# Altium schematic symbol library Horizont_11_12_2017.SchLib: 240 symbols (part 1 of 2)
Pins are listed as number, name and electrical type; pins without a type are passive.

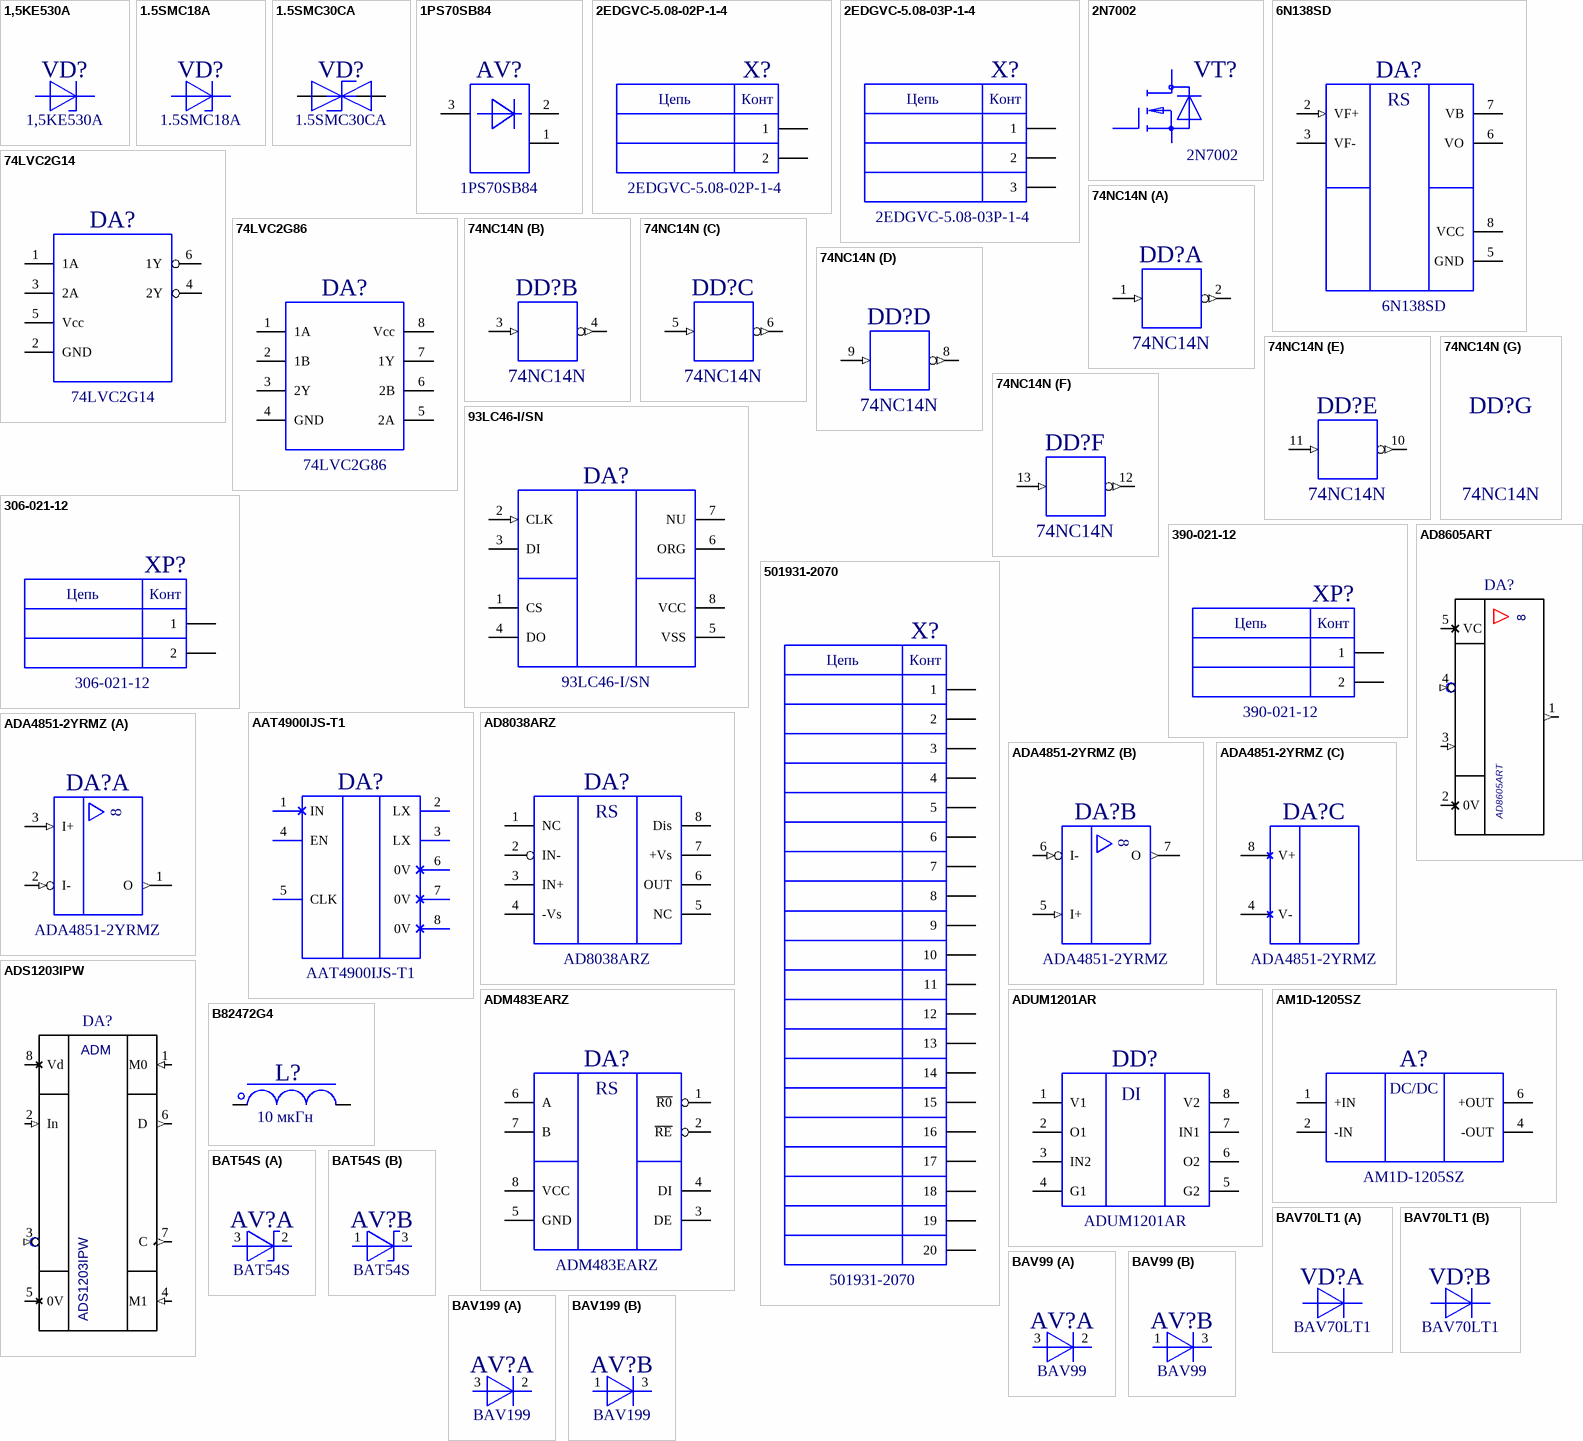
[diagram p0: symbols 1,5KE530A to BAV199]

## 1,5KE530A
designator VD?
TVS-диод 1,5KE530A; Manufacturer: Littelfuse; ValueBOM: TVS-диод 1,5KE530A Littelfuse; DType: TVS-диод; ValueSch: 1,5KE530A; ComponentLink1Description: Datasheet; ComponentLink1URL: c:\Dataseets\Диоды\По фирмам\Littelfuse\TVS-Diode_1.5KE.pdf; Package: DO201
footprint DO201_DIP17.5
footprint DO201_PL22
pins: 1 +, 2 -

## 1.5SMC18A
designator VD?
Супрессор 1.5SMC18A; Manufacturer: TSC; ValueBOM: Супрессор 1.5SMC18A TSC; DType: Супрессор; ValueSch: 1.5SMC18A; ComponentLink1Description: Datasheet; ComponentLink1URL: c:\Dataseets\Стабилитроны\По фирмам\TSC\1.5SMC_TSC.pdf; Package: SMC
footprint SMC
pins: 1 +, 2 -

## 1.5SMC30CA
designator VD?
Супрессор 1.5SMC30CA; Manufacturer: TMS; ValueBOM: Супрессор 1.5SMC30CA TMS; DType: Супрессор; ValueSch: 1.5SMC30CA; ComponentLink1Description: Datasheet; ComponentLink1URL: c:\Dataseets\Стабилитроны\По фирмам\TSC\1.5SMC_TSC.pdf; Package: SOD110
footprint SMCB
pins: 1 A, 2 K

## 1PS70SB84
designator AV?
Сборка диодная 1PS70SB84; Manufacturer: Philips Semiconductors; ValueBOM: Сборка диодная 1PS70SB84 Philips Semiconductors; DType: Сборка диодная; ValueSch: 1PS70SB84; ComponentLink1Description: Datasheet; ComponentLink1URL: c:\Dataseets\Диоды\По фирмам\Philips Semiconductors\1PS70SB82_84_85_86_1.pdf; Package: SOT323
footprint SOT323
pins: 1 A, 2 K, 3 Com

## 2EDGVC-5.08-02P-1-4
designator X?
Вилка 2EDGVC-5.08-02P-1-4; Manufacturer: DEGSON; ValueBOM: Вилка 2EDGVC-5.08-02P-1-4 DEGSON; ValueSch: 2EDGVC-5.08-02P-1-4; DType: Вилка; ComponentLink1Description: Datasheet; ComponentLink1URL: c:\Dataseets\Соединители\По фирмам\DEGSON\2edgvc-5.08.pdf
footprint 2EDGVC-5.08-02P-1-4
pins: 1, 2
text: Цепь; Конт

## 2EDGVC-5.08-03P-1-4
designator X?
Вилка 2EDGVC-5.08-03P-1-4; Manufacturer: DEGSON; ValueBOM: Вилка 2EDGVC-5.08-03P-1-4 DEGSON; ValueSch: 2EDGVC-5.08-03P-1-4; DType: Вилка; ComponentLink1Description: Datasheet; ComponentLink1URL: c:\Dataseets\Соединители\По фирмам\DEGSON\2edgvc-5.08.pdf
footprint 2EDGVC-5.08-03P-1-4
pins: 1, 2, 3
text: Цепь; Конт

## 2N7002
designator VT?
Транзистор 2N7002; Manufacturer: National Semiconductor; ValueBOM: Транзистор 2N7002 National Semiconductor; DType: Транзистор; ValueSch: 2N7002; ComponentLink1Description: Datasheet; ComponentLink1URL: c:\Dataseets\Транзисторы\По фирмам\National Semiconductor\2N7002.pdf; Package: SOT23
footprint SOT23H11
pins: 1 G, 2 S, 3 D

## 6N138SD
designator DA?
Микросхема 6N138SD; Manufacturer: Fairchild Semiconductor; ValueBOM: Микросхема 6N138SD Fairchild Semiconductor; DType: Микросхема; ValueSch: 6N138SD; ComponentLink1Description: Datasheet; ComponentLink1URL: c:\Dataseets\Микросхемы\По фирмам\Fairchild Semiconductor\6N138.pdf; Package: R-PDSO-G8
footprint DIP8LP
pins: 2 VF+ (in), 3 VF-, 5 GND (power), 6 VO, 7 VB, 8 VCC (power)
text: RS

## 74LVC2G14
designator DA?
Микросхема 74LVC2G14; Manufacturer: NXP; ValueBOM: Микросхема 74LVC2G14 NXP; ValueSch: 74LVC2G14; DType: Микросхема; ComponentLink1Description: Datasheet; ComponentLink1URL: c:\Dataseets\Микросхемы\По фирмам\Avago Technologies\HCPL-4100.pdf; Package: SOT363
footprint SOT363
pins: 1 1A, 2 GND, 3 2A, 4 2Y, 5 Vcc, 6 1Y

## 74LVC2G86
designator DA?
Микросхема 74LVC2G86; Manufacturer: NXP; ValueBOM: Микросхема 74LVC2G86 NXP; ValueSch: 74LVC2G86; DType: Микросхема; ComponentLink1Description: Datasheet; ComponentLink1URL: c:\Dataseets\Микросхемы\По фирмам\Avago Technologies\HCPL-4100.pdf; Package: TSSOP8
footprint TSSOP8
pins: 1 1A, 2 1B, 3 2Y, 4 GND, 5 2A, 6 2B, 7 1Y, 8 Vcc

## 74NC14N
designator DD?
Микросхема 74NC14N; DType: Микросхема; ValueSch: 74NC14N; ValueBOM: Микросхема 74NC14N; Package: SO14
footprint SO16h17
pins on every part: 7 GND (power) hidden to GND, 14 VSS (power) hidden to +5V
part A pins: 1 I (in), 2 O (out)
part B pins: 3 I (in), 4 O (out)
part C pins: 5 I (in), 6 O (out)
part D pins: 8 O (out), 9 I (in)
part E pins: 10 O (out), 11 I (in)
part F pins: 12 O (out), 13 I (in)
1 alternate drawing of the same symbol

## 93LC46-I/SN
designator DA?
Микросхема 93LC46-I/SN; Manufacturer: Microchip Technology; ValueBOM: Микросхема 93LC46-I/SN Microchip Technology; DType: Микросхема; ValueSch: 93LC46-I/SN; ComponentLink1Description: Datasheet; ComponentLink1URL: c:\Dataseets\Микросхемы\По фирмам\Microchip Technology\93lc46.pdf; Package: SO8
footprint SO8h17
pins: 1 CS, 2 CLK (in), 3 DI, 4 DO, 5 VSS (power), 6 ORG, 7 NU, 8 VCC (power)

## 306-021-12
designator XP?
Клеммник 306-021-12; ValueSch: 306-021-12; DType: Клеммник; ValueBOM: Клеммник 306-021-12; ComponentLink1Description: Datasheet; ComponentLink1URL: c:\Dataseets\Соединители\Промэлектроника\соединители.pdf
footprint 306-021-12
pins: 1, 2
text: Цепь; Конт

## 390-021-12
designator XP?
Клеммник 390-021-12; ValueSch: 390-021-12; DType: Клеммник; ValueBOM: Клеммник 390-021-12; ComponentLink1Description: Datasheet; ComponentLink1URL: c:\Dataseets\Соединители\Промэлектроника\соединители.pdf
footprint 390-021-12
pins: 1, 2
text: Цепь; Конт

## 501931-2070
designator X?
Вилка 501931-2070; Manufacturer: Molex; ValueBOM: Вилка 501931-2070 Molex; ValueSch: 501931-2070; DType: Вилка; ComponentLink1Description: Datasheet; ComponentLink1URL: c:\Dataseets\Соединители\По фирмам\Molex\Molex 501931-2070.pdf
footprint 501931-2070
pins: 1, 2, 3, 4, 5, 6, 7, 8, 9, 10, 11, 12, 13, 14, 15, 16, 17, 18, 19, 20
text: Цепь; Конт

## AAT4900IJS-T1
designator DA?
Микросхема AAT4900IJS-T1; Manufacturer: Advanced Analogic Tech.; ValueBOM: Микросхема AAT4900IJS-T1 Advanced Analogic Tech.; DType: Микросхема; ValueSch: AAT4900IJS-T1; ComponentLink1Description: Datasheet; ComponentLink1URL: c:\Dataseets\Микросхемы\По фирмам\Advanced Analogic Tech\AAT4900IJS.pdf; Package: SO-8
footprint SC70JW-8
pins: 1 IN, 2 LX, 3 LX, 4 EN, 5 CLK, 6 0V, 7 0V, 8 0V

## AD8038ARZ
designator DA?
Микросхема AD8038ARZ; Manufacturer: Analog Devises; ValueBOM: Микросхема AD8038ARZ Analog Devises; DType: Микросхема; ValueSch: AD8038ARZ; ComponentLink1Description: Datasheet; ComponentLink1URL: c:\Dataseets\Микросхемы\По фирмам\Analog Devises\ADM483EARZ.pdf; Package: SO-8
footprint SO8h17
pins: 1 NC, 2 IN-, 3 IN+, 4 -Vs, 5 NC (power), 6 OUT, 7 +Vs, 8 Dis (power)
text: RS

## AD8605ART
designator DA?
Value: *
footprint SOT23-5
pins: 1 (out), 2 0V (power), 3 (in), 4 (in), 5 VC (power)
text: 8

## ADA4851-2YRMZ
designator DA?
Микросхема ADA4851-2YRMZ; Manufacturer: Analog Devises; ValueBOM: Микросхема ADA4851-2YRMZ Analog Devises; DType: Микросхема; ValueSch: ADA4851-2YRMZ; ComponentLink1Description: Datasheet; ComponentLink1URL: c:\Dataseets\Микросхемы\По фирмам\Analog Devises\ADA4851.pdf; Package: MSOP8
footprint MSOP8H11
part A pins: 1 O (out), 2 I- (in), 3 I+ (in)
part B pins: 5 I+ (in), 6 I- (in), 7 O (out)
part C pins: 4 V- (power), 8 V+ (power)

## ADM483EARZ
designator DA?
Микросхема ADM483EARZ; Manufacturer: Analog Devises; ValueBOM: Микросхема ADM483EARZ Analog Devises; DType: Микросхема; ValueSch: ADM483EARZ; ComponentLink1Description: Datasheet; ComponentLink1URL: c:\Dataseets\Микросхемы\По фирмам\Analog Devises\ADM483EARZ.pdf; Package: SO-8
footprint SO8h17
pins: 1 ~{R0}, 2 ~{RE}, 3 DE, 4 DI, 5 GND (power), 6 A, 7 B, 8 VCC (power)
text: RS

## ADS1203IPW
designator DA?
Value: *
footprint TSSOP8
pins: 1 M0 (in), 2 In (in), 3 ~{In} (in), 4 M1 (in), 5 0V (power), 6 D (out), 7 C (out), 8 Vd (power)
text: ADM

## ADUM1201AR
designator DD?
Микросхема ADUM1201AR; Manufacturer: Analog Devises; ValueBOM: Микросхема ADUM1201AR Analog Devises; DType: Микросхема; ValueSch: ADUM1201AR; ComponentLink1Description: Datasheet; ComponentLink1URL: c:\Dataseets\Микросхемы\По фирмам\Analog Devises\ADUM1201AR.pdf; Package: SO8
footprint SO8h17
pins: 1 V1 (power), 2 O1, 3 IN2, 4 G1 (power), 5 G2 (power), 6 O2, 7 IN1, 8 V2 (power)
text: DI

## AM1D-1205SZ
designator A?
Модуль питания AM1D-1205SZ; Manufacturer: Aimtec; ValueBOM: Модуль питания AM1D-1205SZ Aimtec; ValueSch: AM1D-1205SZ; DType: Модуль питания; ComponentLink1Description: Datasheet; ComponentLink1URL: c:\Dataseets\Источники питания\AIMTEC\AM1D-Z.pdf.pdf
footprint SIP7_2
pins: 1 +IN (power), 2 -IN (power), 4 -OUT (power), 6 +OUT (power)
text: DC/DC

## B82472G4
designator L?  value 10 мкГн  (hidden comment: B82472G4)
Дроссель B82472G4; Part Number: B82472G4103M; Manufacturer: EPCOS; ValueBOM: Дроссель B82472G4103M EPCOS; Tolerance: ±20%; DType: Дроссель; DName: B82472G4; ValueSCH: B82472G4103M; Package: B82472G4; ComponentLink1Description: Datasheet; ComponentLink1URL: c:\Dataseets\Дроссели\EPCOS\B82472G4.pdf
footprint B82472
pins: 1, 2

## BAT54S
designator AV?
Диодная сборка BAT54S; Manufacturer: Vishay; ValueBOM: Диодная сборка BAT54S Vishay; DType: Диодная сборка; ValueSch: BAT54S; ComponentLink1Description: Datasheet; ComponentLink1URL: c:\Dataseets\Диоды\По фирмам\Vishay\BAT54S.pdf; Package: SOT23
footprint SOT23H11
part A pins: 2 -, 3 +
part B pins: 1 +, 3 -

## BAV70LT1
designator VD?
Диод BAV70LT1; Manufacturer: ON Semiconductors; ValueBOM: Диод BAV70LT1 ON Semiconductors; DType: Диод; ValueSch: BAV70LT1; ComponentLink1Description: Datasheet; ComponentLink1URL: c:\Dataseets\Диоды\По фирмам\ON Semiconductors\BAV70LT1.pdf; Package: SOT23
footprint SOT23H11
part A pins: 1 +, 3 -
part B pins: 2 +, 3 -

## BAV99
designator AV?
Диодная сборка BAV99; Manufacturer: Fairchild Semiconductor; ValueBOM: Диодная сборка BAV99 Fairchild Semiconductor; DType: Диодная сборка; ValueSch: BAV99; ComponentLink1Description: Datasheet; ComponentLink1URL: c:\Dataseets\Диоды\По фирмам\Fairchild Semiconductor\bav99.pdf; Package: SOT23
footprint SOT23H11
part A pins: 2 -, 3 +
part B pins: 1 +, 3 -

## BAV199
designator AV?
Диодная сборка BAV199; Manufacturer: Infineon Technologies; ValueBOM: Диодная сборка BAV199 Infineon Technologies; DType: Диодная сборка; ValueSch: BAV199; ComponentLink1Description: Datasheet; ComponentLink1URL: c:\Dataseets\Диоды\По фирмам\Infineon Technologies\bav199.pdf; Package: SOT23
footprint SOT23H11
part A pins: 2 -, 3 +
part B pins: 1 +, 3 -

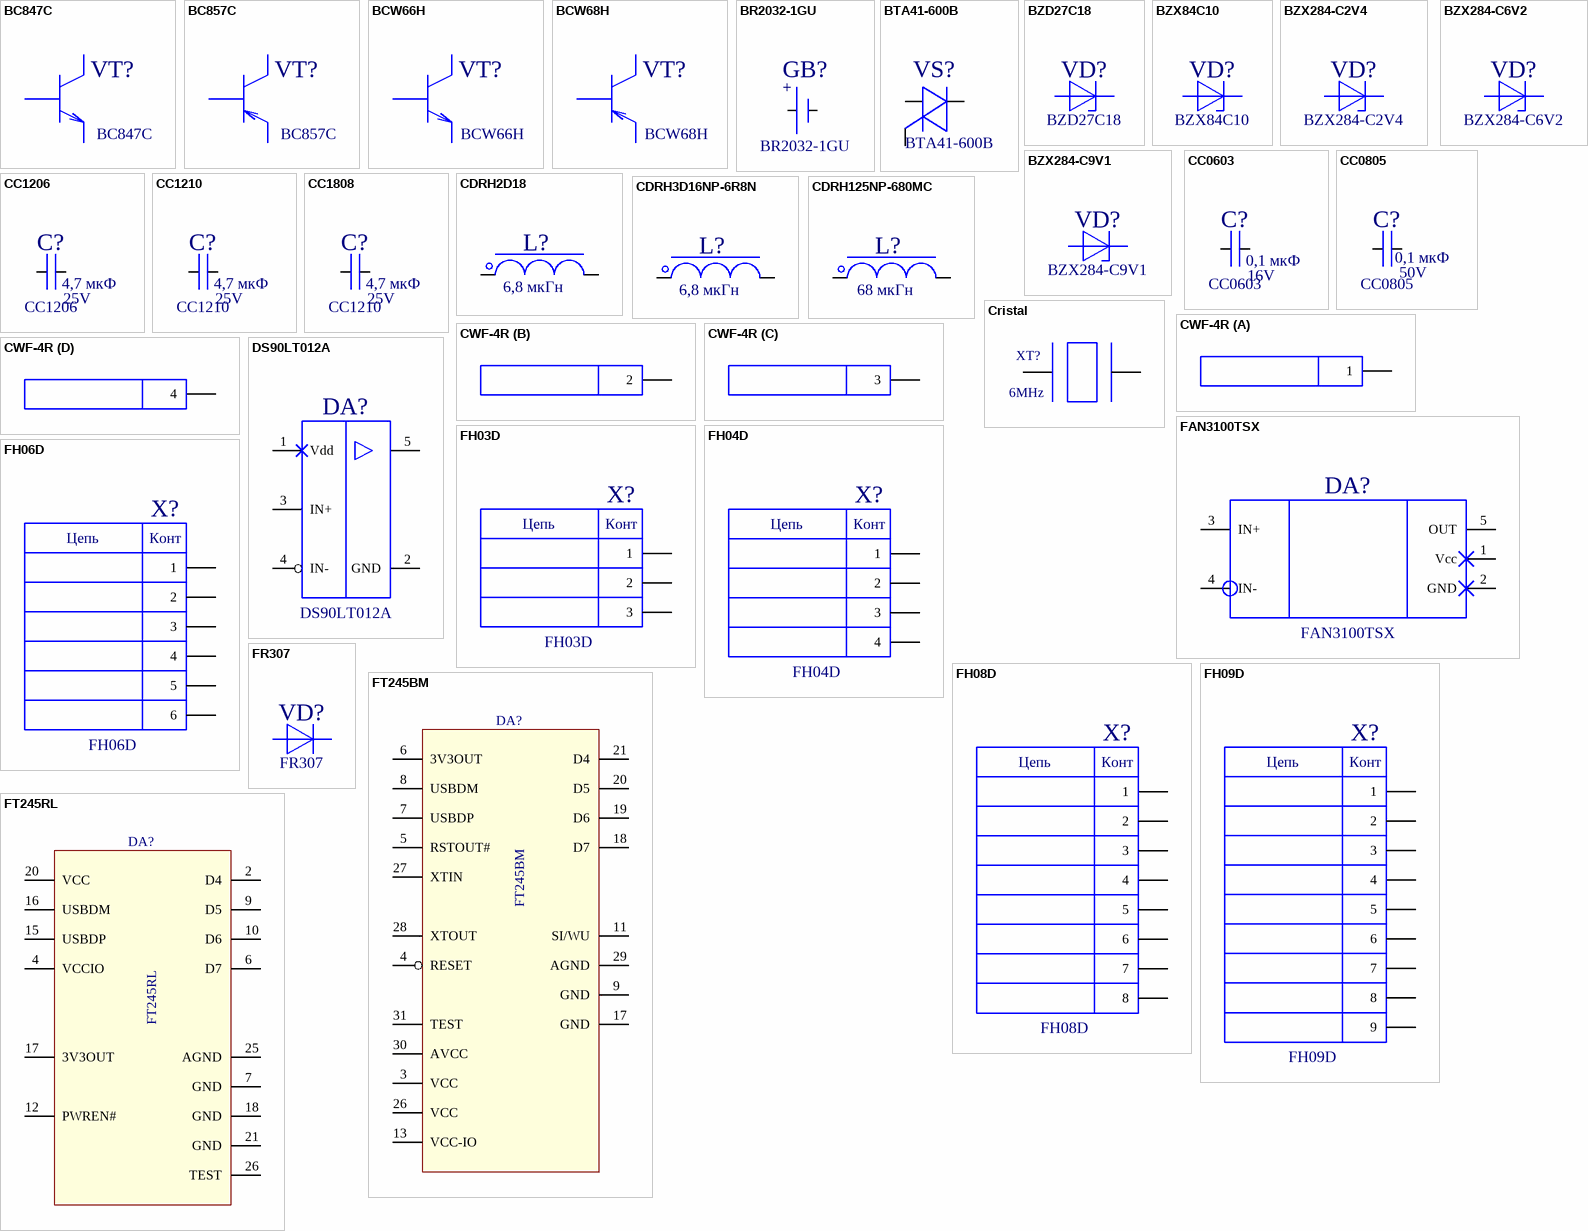
[diagram p1: symbols BC847C to FT245RL]

## BC847C
designator VT?
Транзистор BC847C; Manufacturer: Philips Semiconductors; ValueBOM: Транзистор BC847C Philips Semiconductors; DType: Транзистор; ValueSch: BC847C; ComponentLink1Description: Datasheet; ComponentLink1URL: c:\Dataseets\Транзисторы\По фирмам\Philips Semiconductors\BC847C.pdf; Package: SOT23
footprint SOT23H11
footprint SOT323
pins: 1 B, 2 E, 3 C

## BC857C
designator VT?
Транзистор BC857C; Manufacturer: Philips Semiconductors; ValueBOM: Транзистор BC857C Philips Semiconductors; DType: Транзистор; ValueSch: BC857C; ComponentLink1Description: Datasheet; ComponentLink1URL: c:\Dataseets\Транзисторы\По фирмам\Philips Semiconductors\BC857C.pdf; Package: SOT23
footprint SOT23H11
footprint SOT323
pins: 1 B, 2 E, 3 C

## BCW66H
designator VT?
Транзистор BCW66H; Manufacturer: Infineon Technologies; ValueBOM: Транзистор BCW66H Infineon Technologies; DType: Транзистор; ValueSch: BCW66H; ComponentLink1Description: Datasheet; ComponentLink1URL: c:\Dataseets\Транзисторы\По фирмам\Infineon Technologies\BCW65-BCW66.pdf; Package: SOT23
footprint SOT23H11
pins: 1 B, 2 E, 3 C

## BCW68H
designator VT?
Транзистор BCW68H; Manufacturer: Infineon Technologies; ValueBOM: Транзистор BCW68H Infineon Technologies; DType: Транзистор; ValueSch: BCW68H; ComponentLink1Description: Datasheet; ComponentLink1URL: c:\Dataseets\Транзисторы\По фирмам\Infineon Technologies\BCW67-BCW68.pdf; Package: SOT23
footprint SOT23H11
pins: 1 B, 2 E, 3 C

## BR2032-1GU
designator GB?
Батарея BR2032-1GU; Manufacturer: Panasonic; ValueBOM: Батарея BR2032-1GU Panasonic; DType: Батарея; ValueSCH: BR2032-1GU; ComponentLink1Description: Datasheet; ComponentLink1URL: c:\Dataseets\Батареи\По фирмам\Panasonic\BR2032-1GU.pdf
footprint BR2032-1GU
pins: 1, 2
text: +

## BTA41-600В
designator VS?
Тиристор BTA41-600В; Manufacturer: ST Microelectronics; ValueBOM: Тиристор BTA41-600В ST Microelectronics; DType: Тиристор; ValueSch: BTA41-600В; ComponentLink1Description: Datasheet; ComponentLink1URL: c:\Dataseets\Тиристоры\По фирмам\ST Microelectronics\bta41.pdf; Package: TOP3
footprint Top3
pins: 1, 2, 3

## BZD27C18
designator VD?
Стабилитрон BZD27C18; Manufacturer: Vishay Semiconductors; ValueBOM: Стабилитрон BZD27C18 Vishay Semiconductors; DType: Стабилитрон; ValueSch: BZD27C18; ComponentLink1Description: Datasheet; ComponentLink1URL: c:\Dataseets\Стабилитроны\По фирмам\Vishay Semiconductors\BZD27C18.pdf; Package: SMF
footprint SMF
pins: 1 +, 2 -

## BZX84С10
designator VD?
Стабилитрон BZX84С10; Manufacturer: Philips Semiconductors; ValueBOM: Стабилитрон BZX84С10 Philips Semiconductors; DType: Стабилитрон; ValueSch: BZX84С10; ComponentLink1Description: Datasheet; ComponentLink1URL: c:\Dataseets\Стабилитроны\По фирмам\Philips Semiconductors\BZX84_Series.PDF; Package: SOT23
footprint SOT23H11
pins: 1 +, 3 -

## BZX284-C2V4
designator VD?
Стабилитрон BZX284-C2V4; Manufacturer: Philips Semiconductors; ValueBOM: Стабилитрон BZX284-C2V4 Philips Semiconductors; DType: Стабилитрон; ValueSch: BZX284-C2V4; ComponentLink1Description: Datasheet; ComponentLink1URL: c:\Dataseets\Стабилитроны\По фирмам\Philips Semiconductors\BZX284_4.pdf; Package: SOD110
footprint SOD110
pins: 1 +, 2 -

## BZX284-C6V2
designator VD?
Стабилитрон BZX284-C6V2; Manufacturer: Philips Semiconductors; ValueBOM: Стабилитрон BZX284-C6V2 Philips Semiconductors; DType: Стабилитрон; ValueSch: BZX284-C6V2; ComponentLink1Description: Datasheet; ComponentLink1URL: c:\Dataseets\Стабилитроны\По фирмам\Philips Semiconductors\BZX284_4.pdf; Package: SOD110
footprint SOD110
pins: 1 +, 2 -

## BZX284-C9V1
designator VD?
Стабилитрон BZX284-C9V1; Manufacturer: Philips Semiconductors; ValueBOM: Стабилитрон BZX284-C9V1 Philips Semiconductors; DType: Стабилитрон; ValueSch: BZX284-C9V1; ComponentLink1Description: Datasheet; ComponentLink1URL: c:\Dataseets\Стабилитроны\По фирмам\Philips Semiconductors\BZX284_4.pdf; Package: SOD110
footprint SOD110
pins: 1 +, 2 -

## CC0603
designator C?  value 0,1 мкФ  Voltage: 16V
Конденсатор CC0603; Part Number: CC0603КRX7R7BB104; Manufacturer: Yageo; ValueBOM: Конденсатор CC0603КRX7R7BB104 Yageo; Tolerance: ±10%; TKE: X7R; DType: Конденсатор; DName: CC0603; ValueSCH: CC0603КRX7R7BB104; Package: 0603; ComponentLink1Description: Datasheet; ComponentLink1URL: c:\Dataseets\Конденсаторы\Yageo\сс cl ca cm.pdf
footprint C0603h09
pins: 1, 2

## CC0805
designator C?  value 0,1 мкФ  Voltage: 50V
Конденсатор CC0805; Part Number: CC0805КRX7R9BB104; Manufacturer: Yageo; ValueBOM: Конденсатор CC0805КRX7R9BB104 Yageo; Tolerance: ±10%; TKE: X7R; DType: Конденсатор; DName: CC0805; ValueSCH: CC0805КRX7R9BB104; Package: 0805; ComponentLink1Description: Datasheet; ComponentLink1URL: c:\Dataseets\Конденсаторы\Yageo\сс cl ca cm.pdf
footprint C0805h13
pins: 1, 2

## CC1206
designator C?  value 4,7 мкФ  Voltage: 25V
Конденсатор CC1206; Part Number: CC1206КRX7R8BB47; Manufacturer: Yageo; ValueBOM: Конденсатор CC1206КRX7R8BB47 Yageo; Tolerance: ±10%; TKE: X7R; DType: Конденсатор; DName: CC1206; ValueSCH: CC1206КRX7R8BB47; Package: 1206; ComponentLink1Description: Datasheet; ComponentLink1URL: c:\Dataseets\Конденсаторы\Yageo\сс cl ca cm.pdf
footprint C1206h16
pins: 1, 2

## CC1210
designator C?  value 4,7 мкФ  Voltage: 25V
Конденсатор CC1210; Part Number: CC1210КKX7R8BB475; Manufacturer: Yageo; ValueBOM: Конденсатор CC1210КKX7R8BB475 Yageo; Tolerance: ±10%; TKE: X7R; DType: Конденсатор; DName: CC1210; ValueSCH: CC1210КKX7R8BB475; Package: 1210; ComponentLink1Description: Datasheet; ComponentLink1URL: c:\Dataseets\Конденсаторы\Yageo\сс cl ca cm.pdf
footprint C1210h21
pins: 1, 2

## CC1808
designator C?, comment CC1210  value 4,7 мкФ  Voltage: 25V
Конденсатор CC1210; Part Number: CC1210КKX7R8BB475; Manufacturer: Yageo; ValueBOM: Конденсатор CC1210КKX7R8BB475 Yageo; Tolerance: ±10%; TKE: X7R; DType: Конденсатор; DName: CC1210; ValueSCH: CC1210КKX7R8BB475; Package: 1808; ComponentLink1Description: Datasheet; ComponentLink1URL: c:\Dataseets\Конденсаторы\Yageo\сс cl ca cm.pdf
footprint C1808
pins: 1, 2

## CDRH2D18
designator L?, comment value 6,8 мкГн  (hidden comment: CDRH3D16)
Дроссель CDRH2D18; Manufacturer: Sumida; ValueSCH: CDRH3D16NP-6R8N; ValueBOM: Дроссель CDRH3D16NP-6R8N Sumida; Tolerance: ±30%; Part Number: CDRH3D16; DType: Дроссель; DName: CDRH3D16; ComponentLink1Description: Datasheet; ComponentLink1URL: c:\Dataseets\Дроссели\Sumida\CDRH3D16.pdf
footprint CDRH2D18
pins: 1, 2

## CDRH3D16NP-6R8N
designator L?, comment value 6,8 мкГн  (hidden comment: CDRH3D16)
Дроссель CDRH3D16NP-6R8N; Manufacturer: Sumida; ValueBOM: Дроссель CDRH3D16NP-6R8N Sumida; Tolerance: ±30%; Part Number: CDRH3D16; DType: Дроссель; DName: CDRH3D16; ValueSCH: CDRH3D16NP-6R8N; ComponentLink1Description: Datasheet; ComponentLink1URL: c:\Dataseets\Дроссели\Sumida\CDRH3D16.pdf
footprint CDRH3D16
pins: 1, 2

## CDRH125NP-680MC
designator L?, comment value 68 мкГн  (hidden comment: CDRH125)
Дроссель CDRH125; Manufacturer: Sumida; ValueSCH: CDRH125NP-680MC; ValueBOM: Дроссель CDRH125NP-680MC Sumida; Tolerance: ±20%; Part Number: CDRH125; DType: Дроссель; DName: CDRH125; ComponentLink1Description: Datasheet; ComponentLink1URL: c:\Dataseets\Дроссели\Sumida\CDRH125,CDRH125LD.pdf
footprint CDRH125
pins: 1, 2

## Cristal
designator XT?, comment 6MHz
footprint CRYSTAL
pins: 1 Vcc, 2 Vcc

## CWF-4R
designator X?  (value not drawn)
Вилка CWF-4R; ValueSch: CWF-4R; DType: Вилка; ValueBOM: Вилка CWF-4R; ComponentLink1Description: Datasheet; ComponentLink1URL: c:\Dataseets\Соединители\CWF-xxR.pdf
footprint CWF-4R
part A pins: 1
part B pins: 2
part C pins: 3
part D pins: 4
1 alternate drawing of the same symbol

## DS90LT012A
designator DA?
Микросхема DS90LT012A; Manufacturer: Maxim; ValueBOM: Микросхема DS90LT012A Maxim; ValueSch: DS90LT012A; DType: Микросхема; ComponentLink1Description: Datasheet; ComponentLink1URL: c:\Dataseets\Микросхемы\По фирмам\Maxim\MAX3280E-MAX3284E.pdf; Package: SOT23-6
footprint SOT23-5
pins: 1 Vdd, 2 GND, 3 IN+, 4 IN-, 5 OUT

## FAN3100TSX
designator DA?
Микросхема FAN3100TSX; Manufacturer: Fairchild Semiconductor; ValueBOM: Микросхема FAN3100TSX Fairchild Semiconductor; ValueSch: FAN3100TSX; DType: Микросхема; ComponentLink1Description: Datasheet; ComponentLink1URL: c:\Dataseets\Микросхемы\По фирмам\Fairchild Semiconductor\fan3100tsx.pdf; Package: SOT23-5
footprint SOT23-5
pins: 1 Vcc, 2 GND, 3 IN+, 4 IN-, 5 OUT

## FH03D
designator X?
Вилка FH03D; ValueSch: FH03D; DType: Вилка; ValueBOM: Вилка FH03D; ComponentLink1Description: Datasheet; ComponentLink1URL: c:\Dataseets\Соединители\По фирмам\AUK\FHXXD.pdf
footprint FH03D
pins: 1, 2, 3
1 alternate drawing of the same symbol
text: Цепь; Конт

## FH04D
designator X?
Вилка FH04D; ValueSch: FH04D; DType: Вилка; ValueBOM: Вилка FH04D; ComponentLink1Description: Datasheet; ComponentLink1URL: c:\Dataseets\Соединители\По фирмам\AUK\FHXXD.pdf
footprint FH04D
pins: 1, 2, 3, 4
1 alternate drawing of the same symbol
text: Цепь; Конт

## FH06D
designator X?
Вилка FH06D; ValueSch: FH06D; DType: Вилка; ValueBOM: Вилка FH06D; ComponentLink1Description: Datasheet; ComponentLink1URL: c:\Dataseets\Соединители\По фирмам\AUK\FHXXD.pdf
footprint FH06D
pins: 1, 2, 3, 4, 5, 6
1 alternate drawing of the same symbol
text: Цепь; Конт

## FH08D
designator X?
Вилка FH08D; ValueSch: FH08D; DType: Вилка; ValueBOM: Вилка FH08D; ComponentLink1Description: Datasheet; ComponentLink1URL: c:\Dataseets\Соединители\По фирмам\AUK\FHXXD.pdf
footprint FH08D
pins: 1, 2, 3, 4, 5, 6, 7, 8
1 alternate drawing of the same symbol
text: Цепь; Конт

## FH09D
designator X?
Вилка FH09D; ValueSch: FH09D; DType: Вилка; ValueBOM: Вилка FH09D; ComponentLink1Description: Datasheet; ComponentLink1URL: c:\Dataseets\Соединители\По фирмам\AUK\FHXXD.pdf
footprint FH09D
pins: 1, 2, 3, 4, 5, 6, 7, 8, 9
1 alternate drawing of the same symbol
text: Цепь; Конт

## FR307
designator VD?
Диод FR307; Manufacturer: WHE Power Semiconductor; ValueBOM: Диод FR307 WHE Power Semiconductor; DType: Диод; ValueSch: FR307; ComponentLink1Description: Datasheet; ComponentLink1URL: c:\Dataseets\Диоды\По фирмам\WHE Power Semiconductor\fr301_307.pdf; Package: DO201
footprint DO201_DIP17.5
footprint DO201_PL22
pins: 1 +, 2 -

## FT245BM
designator DA?
Manufacture: Texas; DType: Микросхема; Package: LQFP32
footprint LQFP32
pins: 3 VCC, 4 RESET, 5 RSTOUT#, 6 3V3OUT, 7 USBDP, 8 USBDM, 9 GND, 11 SI/WU, 13 VCC-IO, 17 GND, 18 D7, 19 D6, 20 D5, 21 D4, 26 VCC, 27 XTIN, 28 XTOUT, 29 AGND, 30 AVCC, 31 TEST

## FT245RL
designator DA?
Manufacture: Texas; DType: Микросхема; Package: LQFP32
footprint SSOP28
pins: 2 D4, 4 VCCIO, 6 D7, 7 GND, 9 D5, 10 D6, 12 PWREN#, 15 USBDP, 16 USBDM, 17 3V3OUT, 18 GND, 20 VCC, 21 GND, 25 AGND, 26 TEST

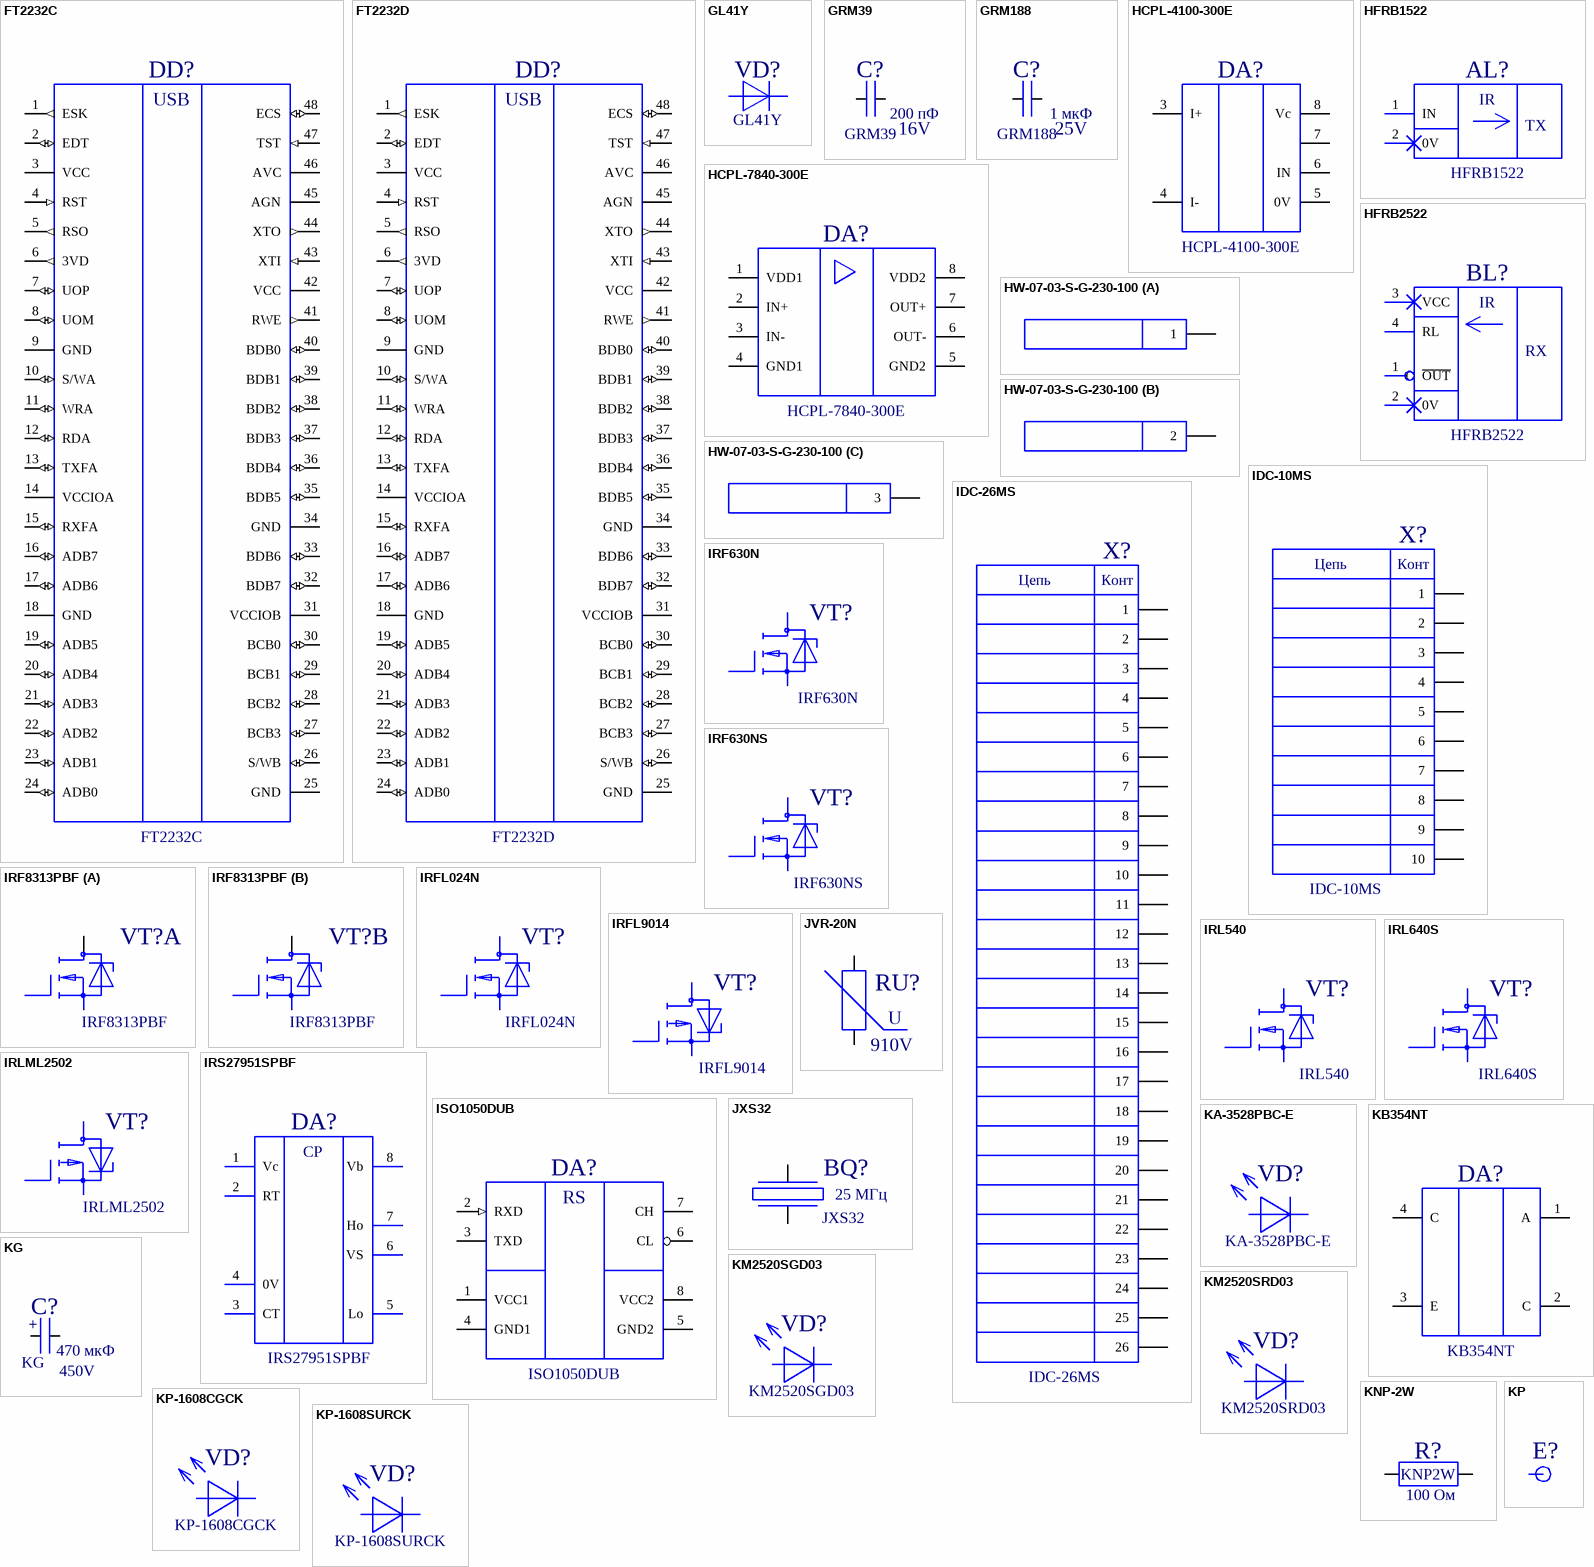
[diagram p2: symbols FT2232C to KP-1608SURCK]

## FT2232C
designator DD?
Микросхема FT2232C; Manufacturer: FTDI; ValueBOM: Микросхема FT2232C FTDI; ValueSch: FT2232C; DType: Микросхема; ComponentLink1Description: Datasheet; ComponentLink1URL: c:\Dataseets\Микросхемы\По фирмам\FTDI\FT2232C.pdf; Package: LQFP48
footprint LQFP48
pins: 1 ESK (out), 2 EDT (io), 3 VCC (power), 4 RST (in), 5 RSO (out), 6 3VD (out), 7 UOP (io), 8 UOM (io), 9 GND (power), 10 S/WA (io), 11 WRA (io), 12 RDA (io), 13 TXFA (io), 14 VCCIOA (power), 15 RXFA (io), 16 ADB7 (io), 17 ADB6 (io), 18 GND (power), 19 ADB5 (io), 20 ADB4 (io), 21 ADB3 (io), 22 ADB2 (io), 23 ADB1 (io), 24 ADB0 (io), 25 GND (power), 26 S/WB (io), 27 BCB3 (io), 28 BCB2 (io), 29 BCB1 (io), 30 BCB0 (io), 31 VCCIOB (power), 32 BDB7 (io), 33 BDB6 (io), 34 GND (power), 35 BDB5 (io), 36 BDB4 (io), 37 BDB3 (io), 38 BDB2 (io), 39 BDB1 (io), 40 BDB0 (io), 41 RWE (out), 42 VCC (power), 43 XTI (in), 44 XTO (out), 45 AGN (power), 46 AVC (power), 47 TST (in), 48 ECS (io)
text: USB

## FT2232D
designator DD?
Микросхема FT2232D; Manufacturer: FTDI; ValueBOM: Микросхема FT2232D FTDI; ValueSch: FT2232D; DType: Микросхема; ComponentLink1Description: Datasheet; ComponentLink1URL: c:\Dataseets\Микросхемы\По фирмам\FTDI\FT2232D.pdf; Package: LQFP48
footprint LQFP48
pins: 1 ESK (out), 2 EDT (io), 3 VCC (power), 4 RST (in), 5 RSO (out), 6 3VD (out), 7 UOP (io), 8 UOM (io), 9 GND (power), 10 S/WA (io), 11 WRA (io), 12 RDA (io), 13 TXFA (io), 14 VCCIOA (power), 15 RXFA (io), 16 ADB7 (io), 17 ADB6 (io), 18 GND (power), 19 ADB5 (io), 20 ADB4 (io), 21 ADB3 (io), 22 ADB2 (io), 23 ADB1 (io), 24 ADB0 (io), 25 GND (power), 26 S/WB (io), 27 BCB3 (io), 28 BCB2 (io), 29 BCB1 (io), 30 BCB0 (io), 31 VCCIOB (power), 32 BDB7 (io), 33 BDB6 (io), 34 GND (power), 35 BDB5 (io), 36 BDB4 (io), 37 BDB3 (io), 38 BDB2 (io), 39 BDB1 (io), 40 BDB0 (io), 41 RWE (out), 42 VCC (power), 43 XTI (in), 44 XTO (out), 45 AGN (power), 46 AVC (power), 47 TST (in), 48 ECS (io)
text: USB

## GL41Y
designator VD?
Диод GL41Y; Manufacturer: Vishay Semiconductors; ValueBOM: Диод GL41Y Vishay Semiconductors; DType: Диод; ValueSch: GL41Y; ComponentLink1Description: Datasheet; ComponentLink1URL: c:\Dataseets\Диоды\По фирмам\Vishay Semiconductors\GL41A_Y.pdf; Package: DO-213AB
footprint DO-213AB
pins: 1 +, 2 -

## GRM39
designator C?  value 200 пФ  Voltage: 16V
Конденсатор GRM39; Part Number: GRM39X7R201K16PT; Manufacturer: Murata; ValueBOM: Конденсатор GRM39X7R201K16PT Murata; Tolerance: ±10%; TKE: X7R; DType: Конденсатор; DName: GRM39; ValueSCH: GRM39X7R201K16PT; Package: 0603; ComponentLink1Description: Datasheet; ComponentLink1URL: c:\Dataseets\Конденсаторы\Murata\c02e3.pdf
footprint C0603h07
pins: 1, 2

## GRM188
designator C?  value 1 мкФ  Voltage: 25V
Конденсатор GRM188; Part Number: GRM188R71E105KA12D; Manufacturer: Murata; ValueBOM: Конденсатор GRM188R71E105KA12D Murata; Tolerance: ±10%; TKE: X7R; DType: Конденсатор; DName: GRM188; ValueSCH: GRM188R71E105KA12D; Package: 0603; ComponentLink1Description: Datasheet; ComponentLink1URL: c:\Dataseets\Конденсаторы\Murata\c02e.pdf
footprint C0603h07
pins: 1, 2

## HCPL-4100-300E
designator DA?
Микросхема HCPL-4100-300E; Manufacturer: Avago Technologies; ValueBOM: Микросхема HCPL-4100-300E Avago Technologies; ValueSch: HCPL-4100-300E; DType: Микросхема; ComponentLink1Description: Datasheet; ComponentLink1URL: c:\Dataseets\Микросхемы\По фирмам\Avago Technologies\HCPL-4100.pdf; Package: DIP-8 Surface
footprint HCPL-300
pins: 3 I+, 4 I-, 5 0V, 6 IN, 7, 8 Vc

## HCPL-7840-300E
designator DA?
Микросхема HCPL-7840-300E; Manufacturer: Agilent Technologies; ValueBOM: Микросхема HCPL-7840-300E Agilent Technologies; ValueSch: HCPL-7840-300E; DType: Микросхема; ComponentLink1Description: Datasheet; ComponentLink1URL: c:\Dataseets\Микросхемы\По фирмам\Agilent Technologies\HCPL-7840.pdf; Package: DIP-8 Surface
footprint HCPL-300
pins: 1 VDD1, 2 IN+, 3 IN-, 4 GND1, 5 GND2, 6 OUT-, 7 OUT+, 8 VDD2

## HFRB1522
designator AL?
Оптопередатчик HFRB1522; Manufacturer: Agilent Technologies; ValueBOM: Оптопередатчик HFRB1522 Agilent Technologies; ValueSch: HFRB1522; DType: Оптопередатчик; ComponentLink1Description: Datasheet; ComponentLink1URL: c:\Dataseets\Оптопары\HFBR-15xx_25xx.pdf
footprint HFRB1522
pins: 1 IN, 2 0V
text: IR; TX

## HFRB2522
designator BL?
Оптоприемник HFRB2522; Manufacturer: Agilent Technologies; DType: Оптопередатчик; ValueBOM: Оптопередатчик HFRB2522 Agilent Technologies; ValueSch: HFRB2522; ComponentLink1Description: Datasheet; ComponentLink1URL: c:\Dataseets\Оптопары\HFBR-15xx_25xx.pdf
footprint HFRB2522
pins: 1 ~{OUT}, 2 0V, 3 VCC, 4 RL
text: IR; RX

## HW-07-03-S-G-230-100
designator X?  (value not drawn)
Вилка HW-07-03-S-G-230-100; Manufacturer: Samtec; ValueBOM: Вилка HW-07-03-S-G-230-100 Samtec; ValueSch: HW-07-03-S-G-230-100; DType: Вилка; ComponentLink1Description: Datasheet; ComponentLink1URL: c:\Dataseets\Соединители\По фирмам\Samtec\EW_TH.PDF
footprint HW-07-03-S-G-230-100
part A pins: 1
part B pins: 2
part C pins: 3
1 alternate drawing of the same symbol

## IDC-10MS
designator X?
Вилка IDC-10MS; ValueSch: IDC-10MS; DType: Вилка; ValueBOM: Вилка IDC-10MS; ComponentLink1Description: Datasheet; ComponentLink1URL: c:\Dataseets\Соединители\IDC.pdf
footprint IDC-10MS
pins: 1, 2, 3, 4, 5, 6, 7, 8, 9, 10
1 alternate drawing of the same symbol
text: Цепь; Конт

## IDC-26MS
designator X?
Вилка IDC-26MS; ValueSch: IDC-26MS; DType: Вилка; ValueBOM: Вилка IDC-26MS; ComponentLink1Description: Datasheet; ComponentLink1URL: c:\Dataseets\Соединители\IDC.pdf
footprint IDC-26MS
pins: 1, 2, 3, 4, 5, 6, 7, 8, 9, 10, 11, 12, 13, 14, 15, 16, 17, 18, 19, 20, 21, 22, 23, 24, 25, 26
text: Цепь; Конт

## IRF630N
designator VT?
Транзистор IRF630N; Manufacturer: International Rectifier; ValueBOM: Транзистор IRF630N International Rectifier; DType: Транзистор; ValueSch: IRF630N; ComponentLink1Description: Datasheet; ComponentLink1URL: c:\Dataseets\Транзисторы\По фирмам\International Rectifier\irf630n.pdf; Package: TO-220
footprint ТО220DIP
footprint ТО220PL
footprint ТО220VERT
pins: 1 G, 2 D, 3 S

## IRF630NS
designator VT?
Транзистор IRF630NS; Manufacturer: International Rectifier; ValueBOM: Транзистор IRF630NS International Rectifier; DType: Транзистор; ValueSch: IRF630NS; ComponentLink1Description: Datasheet; ComponentLink1URL: c:\Dataseets\Транзисторы\По фирмам\International Rectifier\irf630n.pdf; Package: D2PAK
footprint D2PAC
pins: 1 G, 2 D, 3 S

## IRF8313PBF
designator VT?
Транзистор IRF8313PBF; Manufacturer: International Rectifier; ValueBOM: Транзистор IRF8313PBF International Rectifier; DType: Транзистор; ValueSch: IRF8313PBF; ComponentLink1Description: Datasheet; ComponentLink1URL: c:\Dataseets\Транзисторы\По фирмам\International Rectifier\irf8313pbf.pdf; Package: SO-8
footprint SO8h17
part A pins: 1 S, 2 G, 7 D, 8 D
part B pins: 3 S, 4 G, 5 D, 6 D

## IRFL024N
designator VT?
Транзистор IRFL024N; Manufacturer: International Rectifier; ValueBOM: Транзистор IRFL024N International Rectifier; DType: Транзистор; ValueSch: IRFL024N; ComponentLink1Description: Datasheet; ComponentLink1URL: c:\Dataseets\Транзисторы\По фирмам\International Rectifier\IRFL024N.pdf; Package: SOT223
footprint SOT223
pins: 1 G, 2 D, 3 S

## IRFL9014
designator VT?
Транзистор IRFL9014; Manufacturer: International Rectifier; ValueBOM: Транзистор IRFL9014 International Rectifier; DType: Транзистор; ValueSch: IRFL9014; ComponentLink1Description: Datasheet; ComponentLink1URL: c:\Dataseets\Транзисторы\По фирмам\International Rectifier\irfl9014.pdf; Package: SOT223
footprint SOT223
pins: 1 G, 2 D, 3 S

## IRL540
designator VT?
Транзистор IRL540; Manufacturer: International Rectifier; ValueBOM: Транзистор IRL540 International Rectifier; DType: Транзистор; ValueSch: IRL540; ComponentLink1Description: Datasheet; ComponentLink1URL: c:\Dataseets\Транзисторы\По фирмам\International Rectifier\irl540n.pdf; Package: TO-220
footprint ТО220DIP
footprint ТО220PL
footprint ТО220VERT
pins: 1 G, 2 D, 3 S

## IRL640S
designator VT?
Транзистор IRL640S; Manufacturer: Vishay; ValueBOM: Транзистор IRL640S Vishay; DType: Транзистор; ValueSch: IRL640S; ComponentLink1Description: Datasheet; ComponentLink1URL: c:\Dataseets\Транзисторы\Vishay\IRL640S.pdf; Package: D2PAC
footprint D2PAC
pins: 1 G, 2 D, 3 S

## IRLML2502
designator VT?
Транзистор IRLML2502; Manufacturer: International Rectifier; ValueBOM: Транзистор IRLML2502 International Rectifier; DType: Транзистор; ValueSch: IRLML2502; ComponentLink1Description: Datasheet; ComponentLink1URL: c:\Dataseets\Транзисторы\По фирмам\International Rectifier\irfl9014.pdf; Package: SOT23
footprint SOT23H11
pins: 1 G, 2 S, 3 D

## IRS27951SPBF
designator DA?
Микросхема IRS27951SPBF; Manufacturer: International Rectifier; ValueBOM: Микросхема IRS27951SPBF International Rectifier; DType: Микросхема; ValueSch: IRS27951SPBF; ComponentLink1Description: Datasheet; ComponentLink1URL: c:\Dataseets\Микросхемы\По фирмам\International Rectifier\IRS27951S.pdf; Package: SO-8
footprint SO8h17
pins: 1 Vc, 2 RT, 3 CT, 4 0V, 5 Lo, 6 VS, 7 Ho, 8 Vb
text: CP

## ISO1050DUB
designator DA?
Микросхема ISO1050DUB; Manufacturer: Texas Instruments; ValueBOM: Микросхема ISO1050DUB Texas Instruments; DType: Микросхема; ValueSch: ISO1050DUB; ComponentLink1Description: Datasheet; ComponentLink1URL: c:\Dataseets\Микросхемы\По фирмам\Texas Instruments\ISO1050DUB.pdf; Package: R-PDSO-G8
footprint R-PDSO-G8
pins: 1 VCC1 (power), 2 RXD (in), 3 TXD, 4 GND1 (power), 5 GND2 (power), 6 CL, 7 CH, 8 VCC2 (power)
text: RS

## JVR-20N
designator RU?  Voltage: 910V  (hidden comment: JVR-20N)
Варистор JVR-20N; Part Number: JVR-20N911K; Manufacturer: Joyin; DName: JVR-20N; ValueSCH: JVR-20N911K; ValueBOM: =DType + ' ' + ValueSCH +  ' ' + Manufacturer; ComponentLink1Description: Datasheet; ComponentLink1URL: c:\Dataseets\Варисторы\По фирмам\Joyin\JVR.pdf
footprint JVR20N_VERT
pins: 1, 2
text: U

## JXS32
designator BQ?  value 25 МГц
Резонатор JXS32; Part Number: Q 25.0-JXS32-12-10/15-T1-FU-T1; Manufacturer: Jauch; ValueBOM: Резонатор Q 25.0-JXS32-12-10/15-T1-FU-T1 Jauch; DType: Резонатор; DName: JXS32; ValueSCH: Q 25.0-JXS32-12-10/15-T1-FU-T1; ComponentLink1Description: Datasheet; ComponentLink1URL: c:\Dataseets\Кварцевые резонаторы и генераторы\По фирмам\Jauch\JXS32.pdf
footprint JXS32
pins: 1, 3

## KA-3528PBC-E
designator VD?
Светодиод KA-3528PBC-E; Manufacturer: Kingbright; ValueBOM: Светодиод KA-3528PBC-E Kingbright; DType: Светодиод; ValueSch: KA-3528PBC-E; ComponentLink1Description: Datasheet; ComponentLink1URL: c:\Dataseets\Диоды\По фирмам\Kingbright\KA-3528PBC-E.pdf; Package: Голубой
footprint KA-3528PBC-E
pins: 1 A, 2 K

## KB354NT
designator DA?
Микросхема KB354NT; Manufacturer: Kingbright; ValueBOM: Микросхема KB354NT Kingbright; ValueSch: KB354NT; DType: Микросхема; ComponentLink1Description: Datasheet; ComponentLink1URL: c:\Dataseets\Микросхемы\По фирмам\Kingbright\KB354NT.pdf; Package: SO-4
footprint SO4h22
pins: 1 A, 2 C, 3 E, 4 C

## KG
designator C?  value 470 мкФ  Voltage: 450V
Конденсатор KG; Manufacturer: TREC; ValueSCH: KG-450V-470; ValueBOM: Конденсатор KG-450V-470 TREC; DType: Конденсатор; DName: KG; Package: KG; ComponentLink1Description: Datasheet; ComponentLink1URL: c:\Dataseets\Конденсаторы\TREC\KG.pdf; Part Number: KG-450V-470
footprint D36_L56_A11
pins: 1, 2
text: +

## KM2520SGD03
designator VD?
Светодиод KM2520SGD03; Manufacturer: Kingbright; ValueBOM: Светодиод KM2520SGD03 Kingbright; DType: Светодиод; ValueSch: KM2520SGD03; ComponentLink1Description: Datasheet; ComponentLink1URL: c:\Dataseets\Диоды\По фирмам\Kingbright\km2520sgd03.pdf; Package: Зеленый
footprint KM2520SGD03
pins: 1 A, 2 K

## KM2520SRD03
designator VD?
Светодиод KM2520SRD03; Manufacturer: Kingbright; ValueBOM: Светодиод KM2520SRD03 Kingbright; DType: Светодиод; ValueSch: KM2520SRD03; ComponentLink1Description: Datasheet; ComponentLink1URL: c:\Dataseets\Диоды\По фирмам\Kingbright\km2520srd03.pdf; Package: Красный
footprint KM2520SRD03
pins: 1 A, 2 K

## KNP-2W
designator R?  value 100 Ом  (hidden comment: KNP-2W)
Резистор KNP-2W; Part Number: KNP200; Manufacturer: Yageo; ValueBOM: Резистор KNP200-100 Ом±5% Yageo; Tolerance: ±5%; DType: Резистор; DName: KNP-2W; ValueSCH: KNP200; Package: KNP-2; ComponentLink1Description: Datasheet; ComponentLink1URL: c:\Dataseets\Резисторы\Yageo\KNP_2011.pdf
footprint KNP-2_DIP22
pins: 1, 2
text: KNP2W

## KP
designator E?, comment КП  (value not drawn)  (no BOM)
footprint OTV22_14M
footprint OTV16_10M
footprint OTV30_20M
footprint Pl0.8x2
footprint Pl1.2x2.5
footprint OTV10_06M
footprint Pl0.3x1
pins: 1
2 alternate drawings of the same symbol

## KP-1608CGCK
designator VD?
Светодиод KP-1608CGCK; Manufacturer: Kingbright; ValueBOM: Светодиод KP-1608CGCK Kingbright; DType: Светодиод; ValueSch: KP-1608CGCK; ComponentLink1Description: Datasheet; ComponentLink1URL: c:\Dataseets\Диоды\По фирмам\Kingbright\KP-1608CGCK.pdf; Package: Зеленый
footprint KP-1608CGDK
pins: 1 A, 2 K

## KP-1608SURCK
designator VD?
Светодиод KP-1608SURCK; Manufacturer: Kingbright; ValueBOM: Светодиод KP-1608SURCK Kingbright; DType: Светодиод; ValueSch: KP-1608SURCK; ComponentLink1Description: Datasheet; ComponentLink1URL: c:\Dataseets\Диоды\По фирмам\Kingbright\KP-1608SURCK.pdf; Package: Красный
footprint KP-1608SURCK
pins: 1 A, 2 K

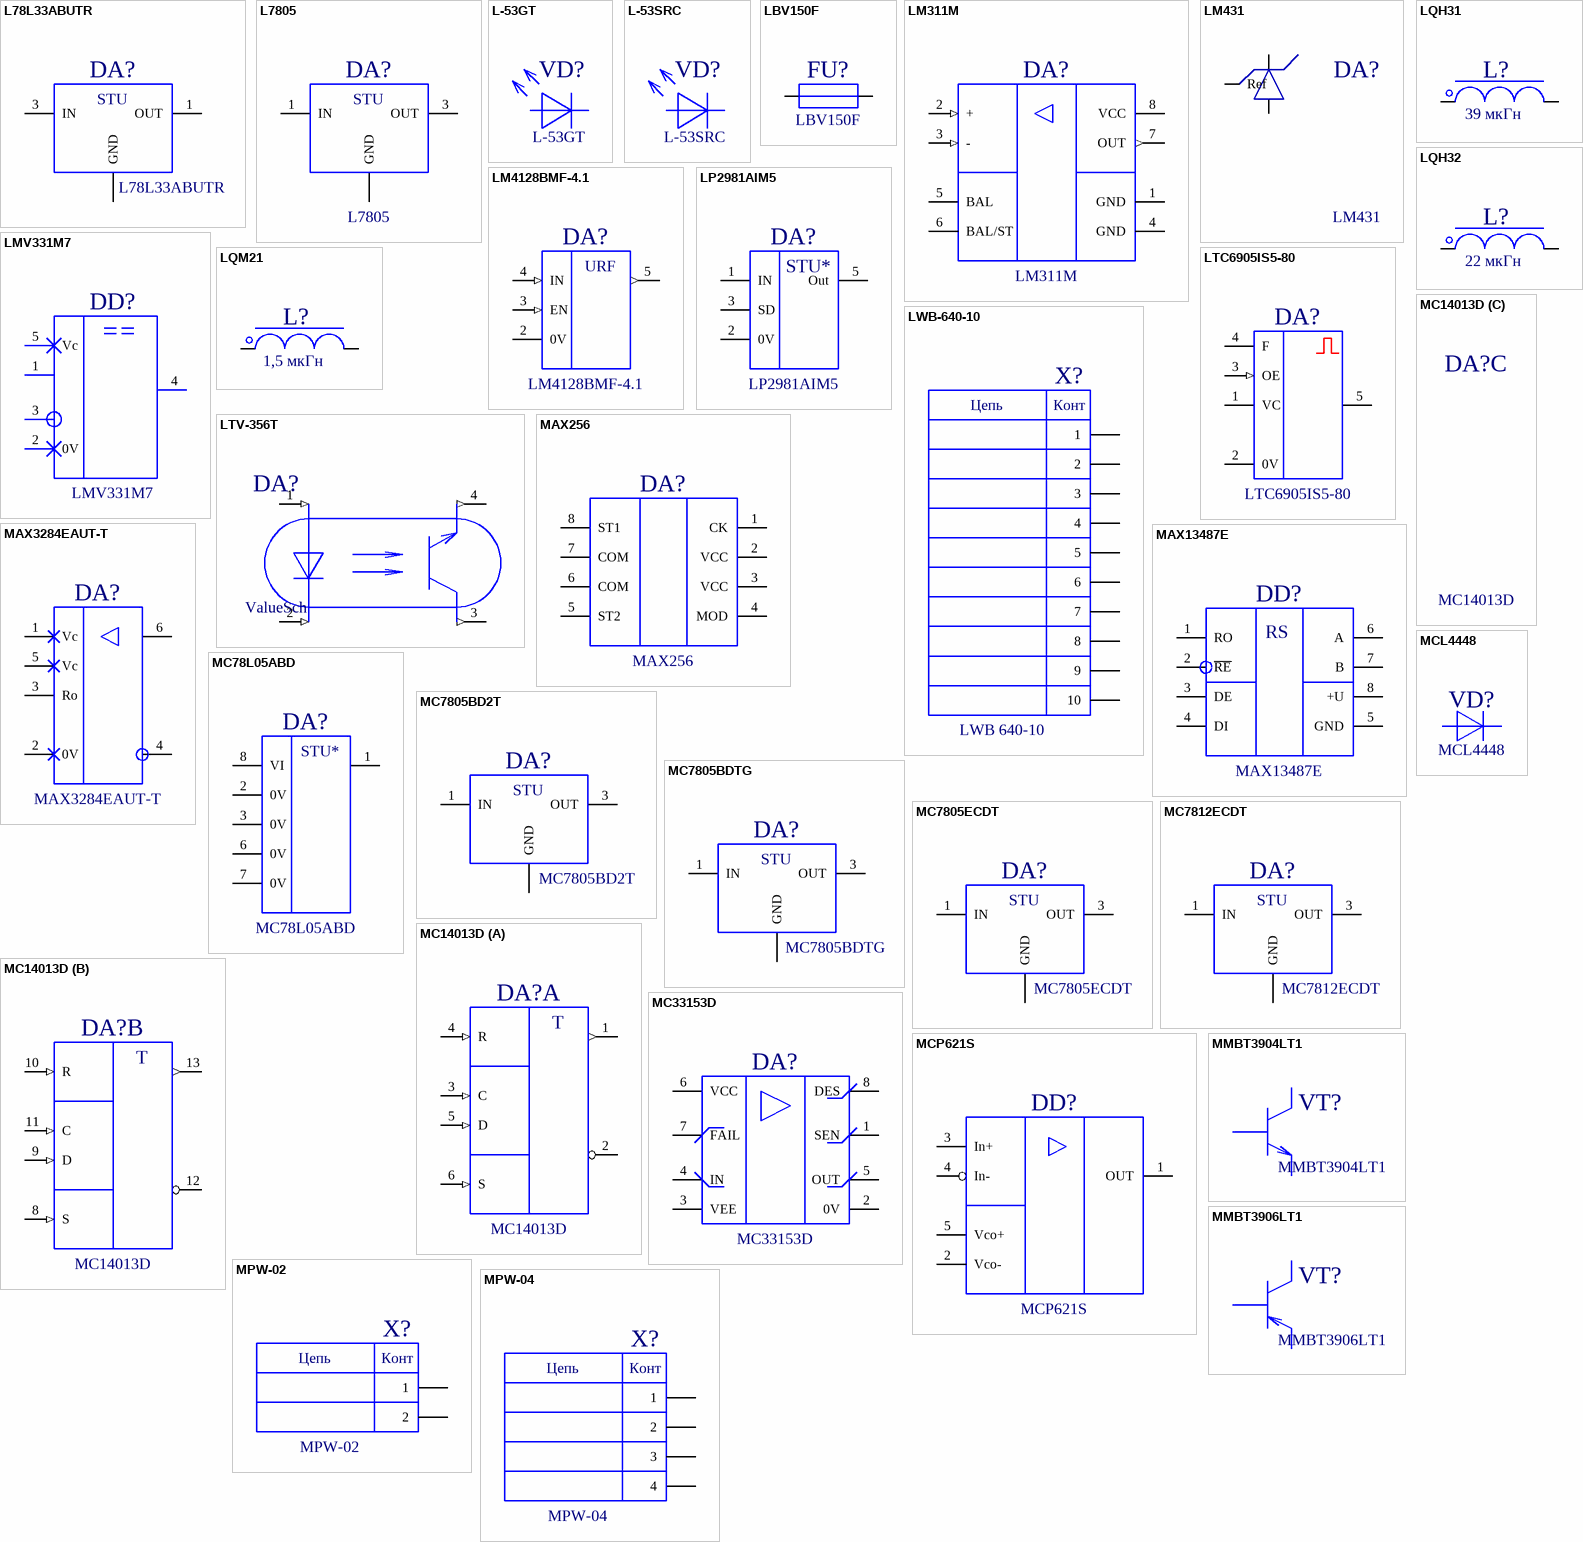
[diagram p3: symbols L78L33ABUTR to MPW-04]

## L78L33ABUTR
designator DA?
Микросхема L78L33ABUTR; Manufacturer: ST Microelectronics; ValueBOM: Микросхема L78L33ABUTR ST Microelectronics; ValueSch: L78L33ABUTR; DType: Микросхема; ComponentLink1Description: Datasheet; ComponentLink1URL: c:\Dataseets\Микросхемы\По фирмам\ST Microelectronics\L78L33ABUTR.pdf; Package: SOT89
footprint SOT89
pins: 1 OUT (power), 2 GND (power), 3 IN (power)
text: STU

## L7805
designator DA?
Линейный стабилизатор L7805; Manufacturer: Philips Semiconductors; ValueBOM: ST L7805 Philips Semiconductors; DType: ST; ValueSch: L7805; ComponentLink1Description: Datasheet; ComponentLink1URL: c:\Dataseets\Транзисторы\По фирмам\Philips Semiconductors\BC857C.pdf; Package: D2PAC
footprint D2PAC
footprint ТО220VERT
pins: 1 IN (power), 2 GND (power), 3 OUT (power)
text: STU

## L-53GT
designator VD?
Светодиод L-53GT; Manufacturer: Kingbright; ValueBOM: Светодиод L-53GT Kingbright; DType: Светодиод; ValueSch: L-53GT; ComponentLink1Description: Datasheet; ComponentLink1URL: c:\Dataseets\Диоды\По фирмам\Kingbright\L53GT.pdf; Package: Зеленый
footprint L-53GT
footprint L-53GT_Gor
pins: 1 A, 2 K

## L-53SRC
designator VD?
Светодиод L-53SRC; Manufacturer: Kingbright; ValueBOM: Светодиод L-53SRC Kingbright; DType: Светодиод; ValueSch: L-53SRC; ComponentLink1Description: Datasheet; ComponentLink1URL: c:\Dataseets\Диоды\По фирмам\Kingbright\L53SRC.pdf; Package: Красный
footprint L-53SRC
footprint L-53SRC_Gor
pins: 1 A, 2 K

## LBV150F
designator FU?
Предохранитель EFUSE LBV150F; Manufacturer: Wayon; ValueBOM: Предохранитель EFUSE LBV150F Wayon; DType: Предохранитель EFUSE; ValueSch: LBV150F; ComponentLink1Description: Datasheet; ComponentLink1URL: c:\Dataseets\Предохранители\По фирмам\Wayon\lbv.pdf
footprint LBV150F
pins: 1, 2

## LM311M
designator DA?
Микросхема LM311M; Manufacturer: Fairchild Semiconductor; ValueBOM: Микросхема LM311M Fairchild Semiconductor; ValueSch: LM311M; DType: Микросхема; ComponentLink1Description: Datasheet; ComponentLink1URL: c:\Dataseets\c:\Dataseets\Микросхемы\По фирмам\Fairchild Semiconductor\LM311.pdf; Package: SO-8
footprint SO8h17
pins: 1 GND (power), 2 + (in), 3 - (in), 4 GND (power), 5 BAL, 6 BAL/ST, 7 OUT (out), 8 VCC (power)

## LM431
designator DA?
Регулятор LM431; Manufacturer: ST; ValueBOM: ST LM431 ST; DType: ST; ValueSch: LM431; ComponentLink1Description: Datasheet; ComponentLink1URL: c:\Dataseets\Транзисторы\По фирмам\Philips Semiconductors\BC857C.pdf; Package: SOT23-6
footprint SOT23H11
pins: 1 +, 2 Ref, 3 -

## LM4128BMF-4.1
designator DA?
Микросхема LM4128BMF-4.1; Manufacturer: National Semicoductor; ValueBOM: Микросхема LM4128BMF-4.1 National Semicoductor; ValueSch: LM4128BMF-4.1; DType: Микросхема; ComponentLink1Description: Datasheet; ComponentLink1URL: c:\Dataseets\Микросхемы\По фирмам\National Semicoductor\LM4128.pdf; Package: SOT23-5
footprint SOT23-5
pins: 2 0V (power), 3 EN (in), 4 IN (in), 5 (out)
text: URF

## LMV331M7
designator DD?
Микросхема LMV331M7; Manufacturer: Texas Instruments; ValueBOM: Микросхема LMV331M7 Texas Instruments; ValueSch: LMV331M7; DType: Микросхема; ComponentLink1Description: Datasheet; ComponentLink1URL: c:\Dataseets\Микросхемы\По фирмам\Texas Instruments\LMV331.pdf; Package: SC70-5
footprint SC70-5
pins: 1, 2 0V, 3, 4, 5 Vc

## LP2981AIM5
designator DA?
Микросхема LP2981AIM5; Manufacturer: Texas Instruments; ValueBOM: Микросхема LP2981AIM5 Texas Instruments; ValueSch: LP2981AIM5; DType: Микросхема; ComponentLink1Description: Datasheet; ComponentLink1URL: c:\Dataseets\Микросхемы\По фирмам\Texas Instruments\lp2981a-50.pdf; Package: SOT23-5
footprint SOT23-5
pins: 1 IN, 2 0V, 3 SD, 5 Out
text: STU*

## LQH31
designator L?  value 39 мкГн  (hidden comment: LQH31)
Дроссель LQH31; Manufacturer: Murata; ValueSCH: LQH31MN390K; ValueBOM: Дроссель LQH31MN390K Murata; Tolerance: ±10%; Part Number: LQH31; DType: Дроссель; DName: LQH31; Package: 1206; ComponentLink1Description: Datasheet; ComponentLink1URL: c:\Dataseets\Дроссели\Murata\Lqh.pdf
footprint L1206h18
pins: 1, 2

## LQH32
designator L?  value 22 мкГн  (hidden comment: LQH32)
Дроссель LQH32; Manufacturer: Murata; ValueSCH: LQH32PN220MN0L; ValueBOM: Дроссель LQH32PN220MN0L Murata; Tolerance: ±20%; Part Number: LQH32; DType: Дроссель; DName: LQH32; Package: 1210; ComponentLink1Description: Datasheet; ComponentLink1URL: c:\Dataseets\Дроссели\Murata\Lqh.pdf
footprint L1210h22
pins: 1, 2

## LQM21
designator L?  value 1,5 мкГн  (hidden comment: LQM21)
Дроссель LQM21; Manufacturer: Murata; ValueSCH: LQM21PN1R5MC0; ValueBOM: Дроссель LQM21PN1R5MC0 Murata; Tolerance: ±20%; Part Number: LQM21; DType: Дроссель; DName: LQM21; Package: 1206; ComponentLink1Description: Datasheet; ComponentLink1URL: c:\Dataseets\Дроссели\Murata\Lqh.pdf
footprint L0805h10
pins: 1, 2

## LTC6905IS5-80
designator DA?
Микросхема LTC6905IS5-80; Manufacturer: Linear Technology; ValueBOM: Микросхема LTC6905IS5-80 Linear Technology; ValueSch: LTC6905IS5-80; DType: Микросхема; ComponentLink1Description: Datasheet; ComponentLink1URL: c:\Dataseets\Микросхемы\По фирмам\Linear Technology\LTC6905-XXX.pdf; Package: SOT23-5
footprint SOT23-5
pins: 1 VC (power), 2 0V (power), 3 OE (in), 4 F, 5

## LTV-356T
designator DA?, comment ValueSch
Микросхема LTV-356T; Manufacturer: Lite-on Electronics; ValueBOM: Микросхема LTV-356T Lite-on Electronics; ValueSch: LTV-356T; DType: Микросхема; ComponentLink1Description: Datasheet; ComponentLink1URL: c:\Dataseets\Микросхемы\По фирмам\Lite-on Electronics\LTV-356T.pdf; Package: SO-4
footprint SO4h22
pins: 1 A (in), 2 K (in), 3 E (out), 4 C (out)
2 alternate drawings of the same symbol

## LWB-640-10
designator X?, comment LWB 640-10
Вилка LWB 640-10; Manufacturer: Hanlim Electronics; ValueBOM: Вилка LWB 640-10 Hanlim Electronics; ValueSch: LWB 640-10; DType: Вилка; ComponentLink1Description: Datasheet; ComponentLink1URL: c:\Dataseets\Соединители\По фирмам\Hanlim Electronics\LWB-640.pdf
footprint LWB-640-10
pins: 1, 2, 3, 4, 5, 6, 7, 8, 9, 10
text: Цепь; Конт

## MAX256
designator DA?
Микросхема MAX256; Manufacturer: Maxim; ValueBOM: Микросхема MAX256 Maxim; ValueSch: MAX256; DType: Микросхема; ComponentLink1Description: Datasheet; ComponentLink1URL: c:\Dataseets\Микросхемы\По фирмам\Maxim\MAX256.pdf; Package: SO8
footprint SO8h17met
pins: 1 CK, 2 VCC (power), 3 VCC (power), 4 MOD, 5 ST2, 6 COM, 7 COM, 8 ST1

## MAX3284EAUT-T
designator DA?
Микросхема MAX3284EAUT-T; Manufacturer: Maxim; ValueBOM: Микросхема MAX3284EAUT-T Maxim; ValueSch: MAX3284EAUT-T; DType: Микросхема; ComponentLink1Description: Datasheet; ComponentLink1URL: c:\Dataseets\Микросхемы\По фирмам\Maxim\MAX3280E-MAX3284E.pdf; Package: SOT23-6
footprint SOT23-6
pins: 1 Vc, 2 0V, 3 Ro, 4, 5 Vc, 6

## MAX13487E
designator DD?
Микросхема MAX13487E; Manufacturer: Maxim; ValueBOM: Микросхема MAX13487E Maxim; ValueSch: MAX13487E; DType: Микросхема; ComponentLink1Description: Datasheet; ComponentLink1URL: c:\Dataseets\Микросхемы\По фирмам\Maxim\MAX13487E-MAX13488E.pdf; Package: SO8
footprint SO8h17
pins: 1 RO, 2 ~{RE}, 3 DE, 4 DI, 5 GND (power), 6 A, 7 B, 8 +U (power)
text: RS

## MC78L05ABD
designator DA?
Микросхема MC78L05ABD; Manufacturer: Fairchild Semiconductor; ValueBOM: Микросхема MC78L05ABD Fairchild Semiconductor; ValueSch: MC78L05ABD; DType: Микросхема; ComponentLink1Description: Datasheet; ComponentLink1URL: c:\Dataseets\Микросхемы\По фирмам\Fairchild Semiconductor\MC78L05AB.pdf; Package: SO-8
footprint SO8h17
pins: 1, 2 0V, 3 0V, 6 0V, 7 0V, 8 VI
text: STU*

## MC7805BD2T
designator DA?
Микросхема MC7805BD2T; Manufacturer: ON Semiconductor; ValueBOM: Микросхема MC7805BD2T ON Semiconductor; ValueSch: MC7805BD2T; DType: Микросхема; ComponentLink1Description: Datasheet; ComponentLink1URL: c:\Dataseets\Микросхемы\По фирмам\ON Semiconductor\MC78.pdf; Package: DPAC
footprint D2PAC-3
pins: 1 IN (power), 2 GND (power), 3 OUT (power)
text: STU

## MC7805BDTG
designator DA?
Микросхема MC7805BDTG; Manufacturer: ON Semiconductor; ValueBOM: Микросхема MC7805BDTG ON Semiconductor; ValueSch: MC7805BDTG; DType: Микросхема; ComponentLink1Description: Datasheet; ComponentLink1URL: c:\Dataseets\Микросхемы\По фирмам\ON Semiconductor\MC78.pdf; Package: TO220
footprint ТО220DIP
footprint ТО220PL
footprint ТО220VERT
pins: 1 IN (power), 2 GND (power), 3 OUT (power)
text: STU

## MC7805ECDT
designator DA?
Микросхема MC7805ECDT; Manufacturer: Fairchild Semiconductor; ValueBOM: Микросхема MC7805ECDT Fairchild Semiconductor; ValueSch: MC7805ECDT; DType: Микросхема; ComponentLink1Description: Datasheet; ComponentLink1URL: c:\Dataseets\c:\Dataseets\Микросхемы\По фирмам\Fairchild Semiconductor\MC7805E.pdf; Package: DPAC
footprint DPAC
pins: 1 IN (power), 2 GND (power), 3 OUT (power)
text: STU

## MC7812ECDT
designator DA?
Микросхема MC7812ECDT; Manufacturer: Fairchild Semiconductor; ValueBOM: Микросхема MC7812ECDT Fairchild Semiconductor; ValueSch: MC7812ECDT; DType: Микросхема; ComponentLink1Description: Datasheet; ComponentLink1URL: c:\Dataseets\c:\Dataseets\Микросхемы\По фирмам\Fairchild Semiconductor\MC7812E.pdf; Package: DPAC
footprint DPAC
pins: 1 IN (power), 2 GND (power), 3 OUT (power)
text: STU

## MC14013D
designator DA?
Микросхема MC14013D; Manufacturer: ON Semiconductor; ValueBOM: Микросхема MC14013D ON Semiconductor; DType: Микросхема; ValueSch: MC14013D; ComponentLink1Description: Datasheet; ComponentLink1URL: c:\Dataseets\Микросхемы\По фирмам\ON Semiconductor\MC14013.pdf; Package: SO14
footprint SO14h17
pins on every part: 7 GND (power) hidden to GND, 14 VCC (power) hidden to +5V
part A pins: 1 Q (out), 2 ~{Q}, 3 C (in), 4 R (in), 5 D (in), 6 S (in)
part B pins: 8 S (in), 9 D (in), 10 R (in), 11 C (in), 12 ~{Q}, 13 Q (out)
1 alternate drawing of the same symbol
part A text: T
part B text: T

## MC33153D
designator DA?
Микросхема MC33153D; Manufacturer: Motorolla; ValueBOM: Микросхема MC33153D Motorolla; DType: Микросхема; ValueSch: MC33153D; ComponentLink1Description: Datasheet; ComponentLink1URL: c:\Dataseets\Микросхемы\По фирмам\Motorolla\MC33153.pdf; Package: SO-8
footprint SO8h17
pins: 1 SEN, 2 0V, 3 VEE, 4 IN, 5 OUT, 6 VCC, 7 FAIL, 8 DES

## MCL4448
designator VD?
Диод MCL4448; Manufacturer: Vishay Semiconductors; ValueBOM: Диод MCL4448 Vishay Semiconductors; DType: Диод; ValueSch: MCL4448; ComponentLink1Description: Datasheet; ComponentLink1URL: c:\Dataseets\Диоды\По фирмам\Vishay Semiconductors\mcl4148,mcl4448.pdf; Package: MicroMELF
footprint MicroMELF
pins: 1 +, 2 -

## MCP621S
designator DD?
Микросхема MCP621S; Manufacturer: Microchip Technology; ValueBOM: Микросхема MCP621S Microchip Technology; DType: Микросхема; ValueSch: MCP621S; ComponentLink1Description: Datasheet; ComponentLink1URL: c:\Dataseets\Микросхемы\По фирмам\Microchip Technology\MCP621.pdf; Package: SOT23-5
footprint SOT23-5
pins: 1 OUT (power), 2 Vco- (power), 3 In+ (power), 4 In- (power), 5 Vco+ (power)

## MMBT3904LT1
designator VT?
Транзистор MMBT3904LT1; Manufacturer: On Semicondactor; ValueBOM: Транзистор MMBT3904LT1 On Semicondactor; DType: Транзистор; ValueSch: MMBT3904LT1; ComponentLink1Description: Datasheet; ComponentLink1URL: c:\Dataseets\Транзисторы\По фирмам\On Semicondactor\MMBT3904LT1G.pdf; Package: SOT23
footprint SOT23H11
pins: 1 B, 2 E, 3 C

## MMBT3906LT1
designator VT?
Транзистор MMBT3906LT1; Manufacturer: On Semicondactor; ValueBOM: Транзистор MMBT3906LT1 On Semicondactor; DType: Транзистор; ValueSch: MMBT3906LT1; ComponentLink1Description: Datasheet; ComponentLink1URL: c:\Dataseets\Транзисторы\По фирмам\On Semicondactor\MMBT3906LT1G.pdf; Package: SOT23
footprint SOT23H11
pins: 1 B, 2 E, 3 C

## MPW-02
designator X?
Вилка MPW-02; ValueSch: MPW-02; DType: Вилка; ValueBOM: Вилка MPW-02; ComponentLink1Description: Datasheet; ComponentLink1URL: c:\Dataseets\Соединители\MPW.pdf; PartNumber: MPW-02
footprint MPW-02
pins: 1, 2
text: Цепь; Конт

## MPW-04
designator X?
Вилка MPW-04; ValueSch: MPW-04; DType: Вилка; ValueBOM: Вилка MPW-04; ComponentLink1Description: Datasheet; ComponentLink1URL: c:\Dataseets\Соединители\MPW.pdf; PartNumber: MPW-04
footprint MPW-04
pins: 1, 2, 3, 4
text: Цепь; Конт

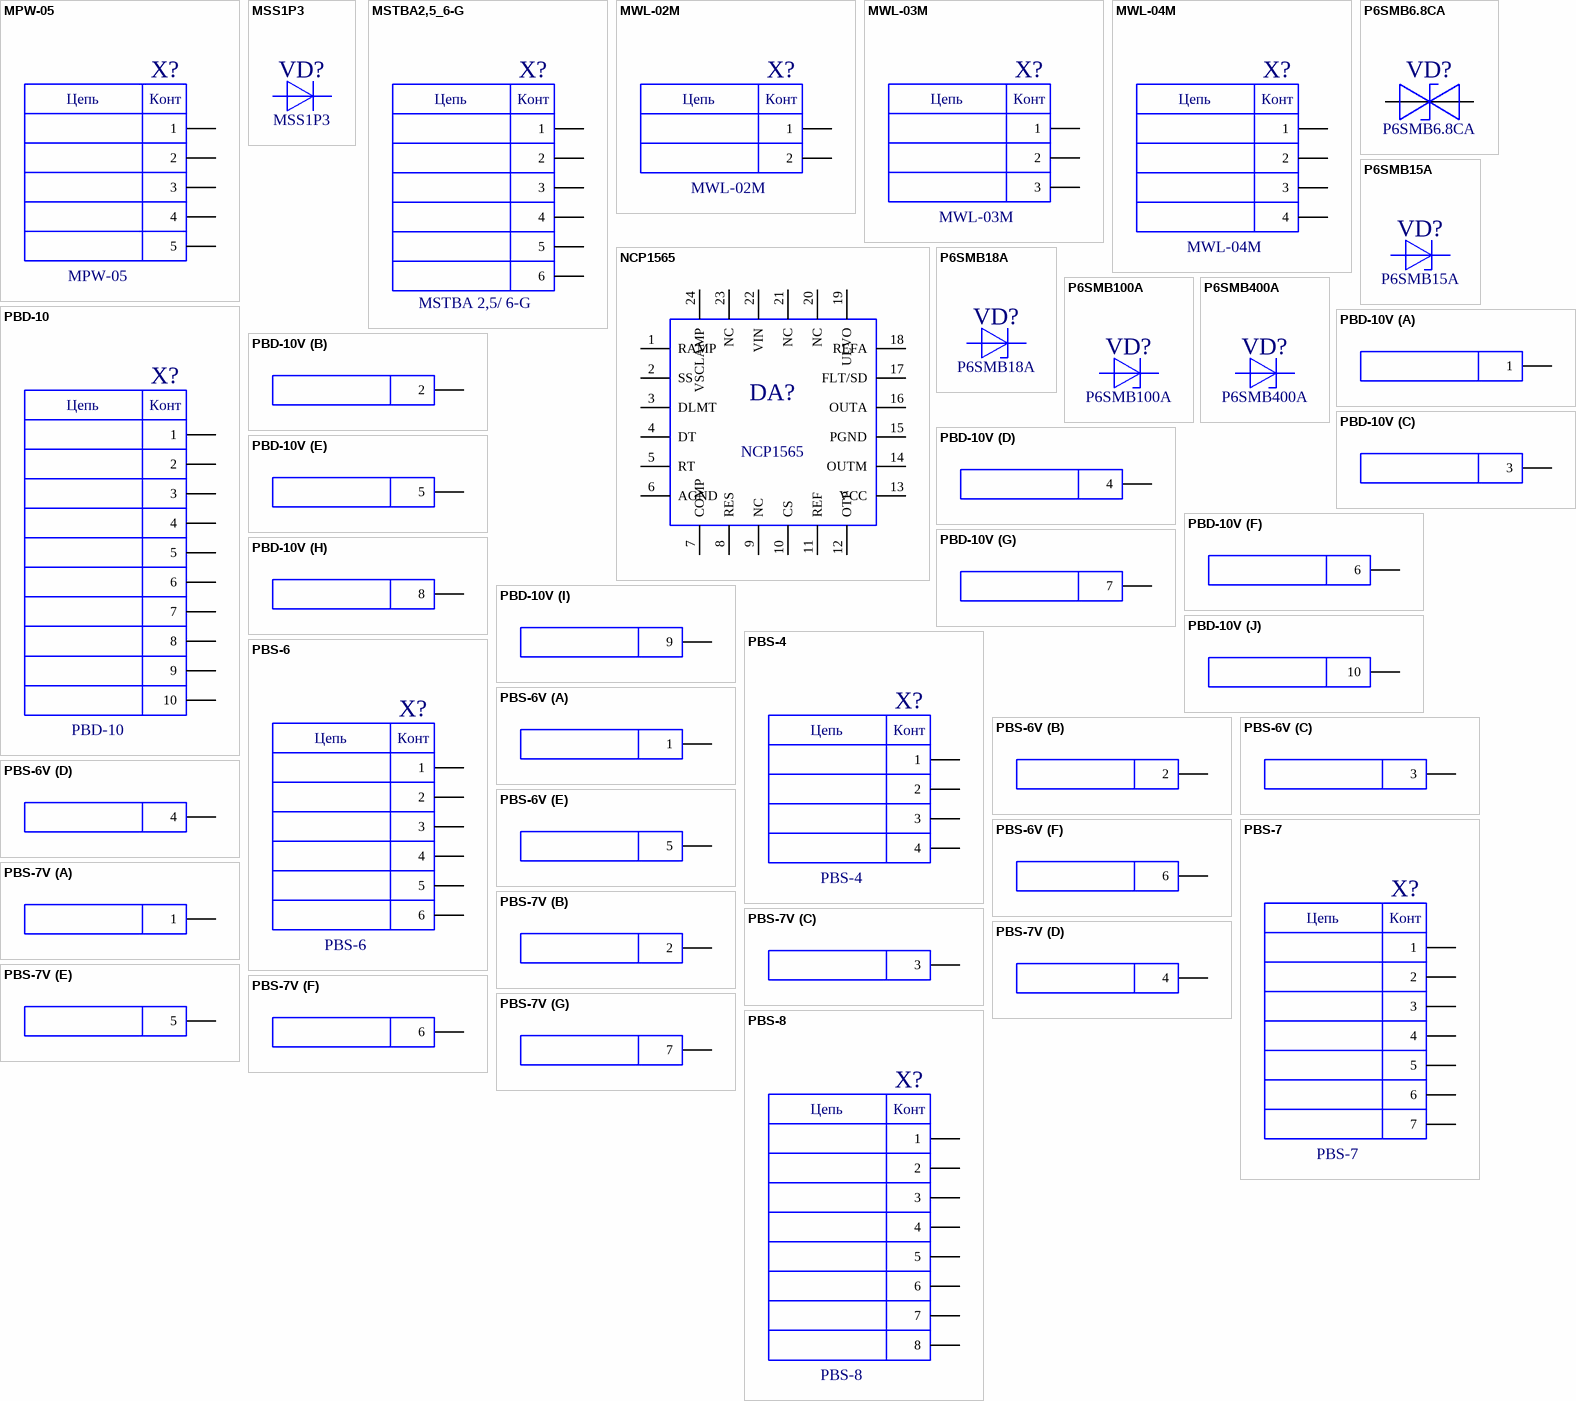
[diagram p4: symbols MPW-05 to PBS-8]

## MPW-05
designator X?
Вилка MPW-05; ValueSch: MPW-05; DType: Вилка; ValueBOM: Вилка MPW-05; ComponentLink1Description: Datasheet; ComponentLink1URL: c:\Dataseets\Соединители\MPW.pdf; PartNumber: MPW-05
footprint MPW-05
pins: 1, 2, 3, 4, 5
text: Цепь; Конт

## MSS1P3
designator VD?
Диод MSS1P3; Manufacturer: NXP Semiconductors; ValueBOM: Диод MSS1P3 NXP Semiconductors; DType: Диод; ValueSch: MSS1P3; ComponentLink1Description: Datasheet; ComponentLink1URL: c:\Dataseets\Диоды\По фирмам\NXP Semiconductors\PMEG2005EL.pdf; Package: SOD882
footprint MicroSMP
pins: 1 -, 2 +

## MSTBA2,5_6-G
designator X?, comment MSTBA 2,5/ 6-G
Клеммник MSTBA 2,5/ 6-G; Manufacturer: Phoenix Сontact; ValueBOM: Клеммник MSTBA 2,5/ 6-G Phoenix Сontact; ValueSch: MSTBA 2,5/ 6-G; DType: Клеммник; ComponentLink1Description: Datasheet; ComponentLink1URL: c:\Dataseets\Соединители\По фирмам\Phoenix\1757514.pdf; Package: № 1757514
footprint MSTBA 2,5/6
pins: 1, 2, 3, 4, 5, 6
text: Цепь; Конт

## MWL-02M
designator X?
Вилка MWL-02M; ValueSch: MWL-02M; DType: Вилка; ValueBOM: Вилка MWL-02M; ComponentLink1Description: Datasheet; ComponentLink1URL: c:\Dataseets\Соединители\MWL,MHU.pdf
footprint MWL-02M
pins: 1, 2
text: Цепь; Конт

## MWL-03M
designator X?
Вилка MWL-03M; ValueSch: MWL-03M; DType: Вилка; ValueBOM: Вилка MWL-03M; ComponentLink1Description: Datasheet; ComponentLink1URL: c:\Dataseets\Соединители\MWL,MHU.pdf
footprint MWL-03M
pins: 1, 2, 3
text: Цепь; Конт

## MWL-04M
designator X?
Вилка MWL-04M; ValueSch: MWL-04M; DType: Вилка; ValueBOM: Вилка MWL-04M; ComponentLink1Description: Datasheet; ComponentLink1URL: c:\Dataseets\Соединители\MWL,MHU.pdf
footprint MWL-04M
pins: 1, 2, 3, 4
text: Цепь; Конт

## NCP1565
designator DA?
Микросхема NCP1565; Manufacturer: ONsemi; ValueBOM: Микросхема NCP1565 ONsemi; ValueSch: NCP1565; DType: Микросхема; ComponentLink1Description: Datasheet; ComponentLink1URL: c:\Dataseets\Микросхемы\По фирмам\Fairchild Semiconductor\fan3100tsx.pdf; Package: QFN24
footprint Quad24_Flip
pins: 1 RAMP, 2 SS, 3 DLMT, 4 DT, 5 RT, 6 AGND, 7 COMP, 8 RES, 9 NC, 10 CS, 11 REF, 12 OTP, 13 VCC, 14 OUTM, 15 PGND, 16 OUTA, 17 FLT/SD, 18 REFA, 19 ULVO, 20 NC, 21 NC, 22 VIN, 23 NC, 24 VSCLAMP

## P6SMB6.8СA
designator VD?
TVS-диод P6SMB6.8СA; Manufacturer: Littelfuse; ValueBOM: TVS-диод P6SMB6.8СA Littelfuse; DType: TVS-диод; ValueSch: P6SMB6.8СA; ComponentLink1Description: Datasheet; ComponentLink1URL: c:\Dataseets\Диоды\По фирмам\Littelfuse\P6SMB.pdf; Package: SMB
footprint SMBD
pins: 1 A, 2 A

## P6SMB15A
designator VD?
TVS-диод P6SMB15A; Manufacturer: Littelfuse; ValueBOM: TVS-диод P6SMB15A Littelfuse; DType: TVS-диод; ValueSch: P6SMB15A; ComponentLink1Description: Datasheet; ComponentLink1URL: c:\Dataseets\Диоды\По фирмам\Littelfuse\P6SMB.pdf; Package: SMB
footprint SMB
pins: 1 +, 2 -

## P6SMB18A
designator VD?
TVS-диод P6SMB18A; Manufacturer: Littelfuse; ValueBOM: TVS-диод P6SMB18A Littelfuse; DType: TVS-диод; ValueSch: P6SMB18A; ComponentLink1Description: Datasheet; ComponentLink1URL: c:\Dataseets\Диоды\По фирмам\Littelfuse\P6SMB.pdf; Package: SMB
footprint SMB
pins: 1 +, 2 -

## P6SMB100A
designator VD?
TVS-диод P6SMB100A; Manufacturer: Littelfuse; ValueBOM: TVS-диод P6SMB100A Littelfuse; DType: TVS-диод; ValueSch: P6SMB100A; ComponentLink1Description: Datasheet; ComponentLink1URL: c:\Dataseets\Диоды\По фирмам\Littelfuse\P6SMB.pdf; Package: SMB
footprint SMB
pins: 1 +, 2 -

## P6SMB400A
designator VD?
TVS-диод P6SMB400A; Manufacturer: Littelfuse; ValueBOM: TVS-диод P6SMB400A Littelfuse; DType: TVS-диод; ValueSch: P6SMB400A; ComponentLink1Description: Datasheet; ComponentLink1URL: c:\Dataseets\Диоды\По фирмам\Littelfuse\P6SMB.pdf; Package: SMB
footprint SMB
pins: 1 +, 2 -

## PBD-10
designator X?
Розетка PBD-10; ValueSch: PBD-10; DType: Розетка; ValueBOM: Розетка PBD-10; ComponentLink1Description: Datasheet; ComponentLink1URL: c:\Dataseets\Соединители\PBD.pdf
footprint PBD-10
pins: 1, 2, 3, 4, 5, 6, 7, 8, 9, 10
text: Цепь; Конт